# Altium integrated library analog-devices.IntLib: 264 symbols (part 1 of 4)
Pins are listed as number, name and electrical type; pins without a type are passive.

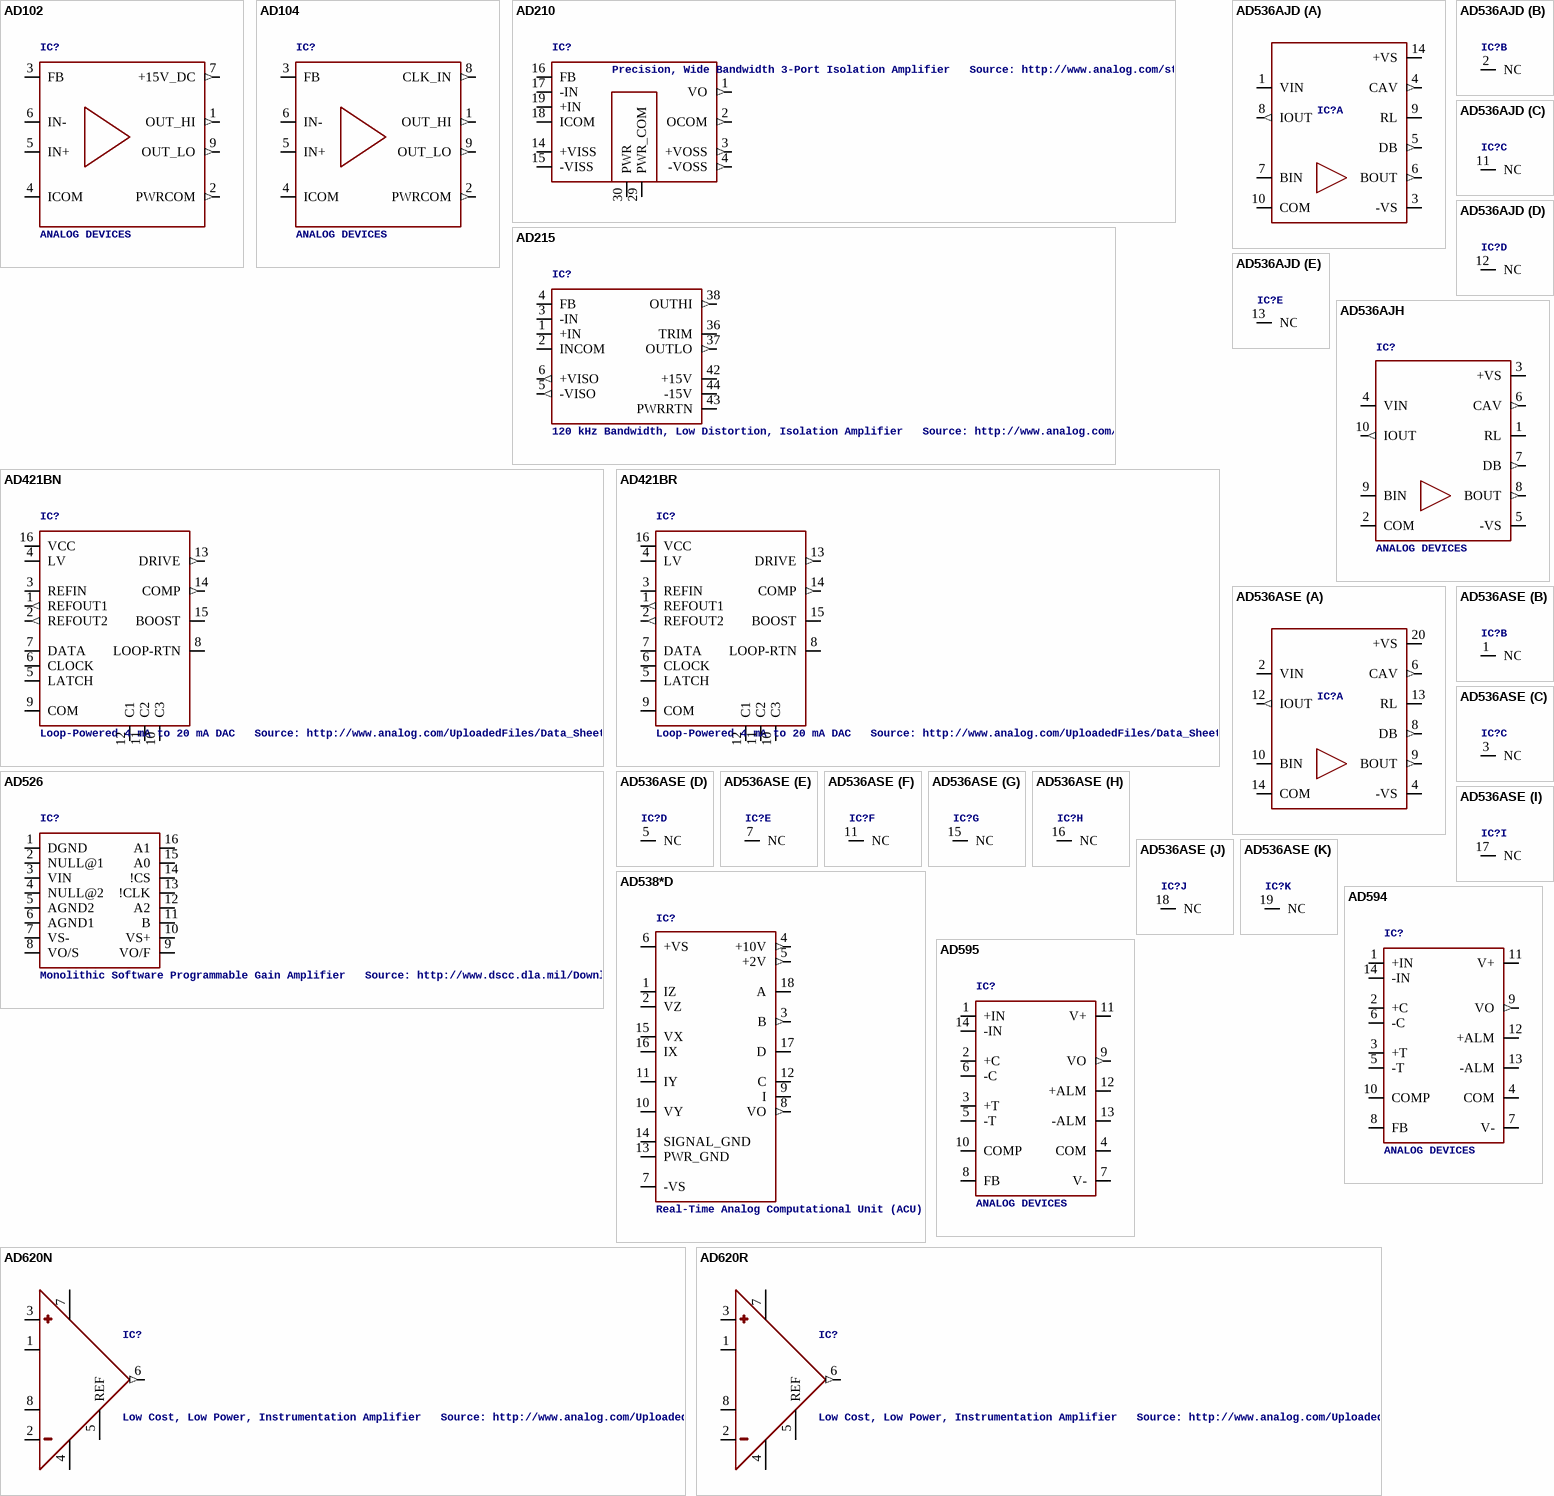
[diagram p0: symbols AD102 to AD620R]

## AD102
designator IC?, comment ANALOG DEVICES
OC_FARNELL: unknown; OC_NEWARK: unknown
footprint AD102
pins: 1 OUT_HI (out), 2 PWRCOM (out), 3 FB, 4 ICOM (power), 5 IN+, 6 IN-, 7 +15V_DC (out), 9 OUT_LO (out)

## AD104
designator IC?, comment ANALOG DEVICES
MPN: AD1047; OC_FARNELL: unknown; OC_NEWARK: 27R0347
footprint AD104
pins: 1 OUT_HI (out), 2 PWRCOM (out), 3 FB, 4 ICOM (power), 5 IN+, 6 IN-, 8 CLK_IN (out), 9 OUT_LO (out)

## AD210
designator IC?, comment Precision, Wide Bandwidth 3-Port Isolation Amplifier   Source: http://www.analog.com/static/imported-files/data_sheets/AD210.pdf
MPN: AD210AN; MF: ALTERA CORPORATION; OC_FARNELL: 3182034; OC_NEWARK: 05F6727
footprint AD210
pins: 1 VO (out), 2 OCOM (out), 3 +VOSS (out), 4 -VOSS (out), 14 +VISS, 15 -VISS, 16 FB, 17 -IN, 18 ICOM, 19 +IN, 29 PWR_COM, 30 PWR

## AD215
designator IC?, comment 120 kHz Bandwidth, Low Distortion, Isolation Amplifier   Source: http://www.analog.com/static/imported-files/data_sheets/AD215.pdf
MPN: AD215AY; MF: ALTERA CORPORATION; OC_FARNELL: 1464281; OC_NEWARK: 09B5050
footprint AD215
pins: 1 +IN, 2 INCOM, 3 -IN, 4 FB, 5 -VISO (out), 6 +VISO (out), 36 TRIM, 37 OUTLO (out), 38 OUTHI (out), 42 +15V, 43 PWRRTN, 44 -15V

## AD421BN
designator IC?, comment Loop-Powered 4 mA to 20 mA DAC   Source: http://www.analog.com/UploadedFiles/Data_Sheets/409317160AD421_c.pdf
MPN: AD421BN; MF: ALTERA CORPORATION; OC_FARNELL: 1438368; OC_NEWARK: 52F8047
footprint DIL16
pins: 1 REFOUT1 (out), 2 REFOUT2 (out), 3 REFIN, 4 LV, 5 LATCH, 6 CLOCK, 7 DATA, 8 LOOP-RTN, 9 COM (power), 10 C3, 11 C2, 12 C1, 13 DRIVE (out), 14 COMP (out), 15 BOOST (oc), 16 VCC (power)

## AD421BR
designator IC?, comment Loop-Powered 4 mA to 20 mA DAC   Source: http://www.analog.com/UploadedFiles/Data_Sheets/409317160AD421_c.pdf
MPN: AD421BR; OC_FARNELL: 1278822; OC_NEWARK: 52F8048
footprint SO-16W
pins: 1 REFOUT1 (out), 2 REFOUT2 (out), 3 REFIN, 4 LV, 5 LATCH, 6 CLOCK, 7 DATA, 8 LOOP-RTN, 9 COM (power), 10 C3, 11 C2, 12 C1, 13 DRIVE (out), 14 COMP (out), 15 BOOST (oc), 16 VCC (power)

## AD526
designator IC?, comment Monolithic Software Programmable Gain Amplifier   Source: http://www.dscc.dla.mil/Downloads/MilSpec/Smd/90894.pdf
MPN: AD526AD; MF: ALTERA CORPORATION; OC_FARNELL: 402140; OC_NEWARK: 05F6913
footprint DIL16
pins: 1 DGND, 2 NULL@1, 3 VIN, 4 NULL@2, 5 AGND2, 6 AGND1, 7 VS-, 8 VO/S, 9 VO/F, 10 VS+, 11 B, 12 A2, 13 !CLK, 14 !CS, 15 A0, 16 A1

## AD536AJD
designator IC?, comment ANALOG DEVICES  (value not drawn)
MPN: AD536AJD; MF: ALTERA CORPORATION; OC_FARNELL: 405358; OC_NEWARK: 05F6939
footprint DIL14
part A pins: 1 VIN, 3 -VS (power), 4 CAV (out), 5 DB (out), 6 BOUT (out), 7 BIN, 8 IOUT (out), 9 RL, 10 COM (power), 14 +VS (power)
part B pins: 2 NC
part C pins: 11 NC
part D pins: 12 NC
part E pins: 13 NC

## AD536AJH
designator IC?, comment ANALOG DEVICES
MPN: AD536AJH; MF: ALTERA CORPORATION; OC_FARNELL: 405360; OC_NEWARK: 05F6940
footprint TO100
pins: 1 RL, 2 COM (power), 3 +VS (power), 4 VIN, 5 -VS (power), 6 CAV (out), 7 DB (out), 8 BOUT (out), 9 BIN, 10 IOUT (out)

## AD536ASE
designator IC?, comment ANALOG DEVICES  (value not drawn)
OC_FARNELL: unknown; OC_NEWARK: unknown
footprint LCC20
part A pins: 2 VIN, 4 -VS (power), 6 CAV (out), 8 DB (out), 9 BOUT (out), 10 BIN, 12 IOUT (out), 13 RL, 14 COM (power), 20 +VS (power)
part B pins: 1 NC
part C pins: 3 NC
part D pins: 5 NC
part E pins: 7 NC
part F pins: 11 NC
part G pins: 15 NC
part H pins: 16 NC
part I pins: 17 NC
part J pins: 18 NC
part K pins: 19 NC

## AD538*D
designator IC?, comment Real-Time Analog Computational Unit (ACU)
MPN: AD538AD; MPN: AD538BD; MPN: AD538SD; MF: ALTERA CORPORATION; OC_FARNELL: 402667; OC_NEWARK: 05F6949; OC_FARNELL: 1530988; OC_NEWARK: 05F6950; OC_FARNELL: unknown; OC_NEWARK: 16F3434
footprint DIL18
pins: 1 IZ, 2 VZ, 3 B (out), 4 +10V (out), 5 +2V (out), 6 +VS (power), 7 -VS (power), 8 VO (out), 9 I, 10 VY, 11 IY, 12 C, 13 PWR_GND (power), 14 SIGNAL_GND (power), 15 VX, 16 IX, 17 D, 18 A

## AD594
designator IC?, comment ANALOG DEVICES
MPN: AD594AQ; MF: ALTERA CORPORATION; OC_FARNELL: 409182; OC_NEWARK: 05F7088
footprint DIL14
pins: 1 +IN, 2 +C, 3 +T, 4 COM (power), 5 -T, 6 -C, 7 V- (power), 8 FB, 9 VO (out), 10 COMP, 11 V+ (power), 12 +ALM, 13 -ALM, 14 -IN

## AD595
designator IC?, comment ANALOG DEVICES
MPN: AD595AQ; OC_FARNELL: 409194; OC_NEWARK: 06WX1596
footprint DIL14
pins: 1 +IN, 2 +C, 3 +T, 4 COM (power), 5 -T, 6 -C, 7 V- (power), 8 FB, 9 VO (out), 10 COMP, 11 V+ (power), 12 +ALM, 13 -ALM, 14 -IN

## AD620N
designator IC?, comment Low Cost, Low Power, Instrumentation Amplifier   Source: http://www.analog.com/UploadedFiles/Data_Sheets/37793330023930AD620_e.pdf
MPN: AD620AN; MF: ALTERA CORPORATION; OC_FARNELL: 1523782; OC_NEWARK: 05F7108
footprint DIL08
pins: 1 RG@1, 2 -, 3 +, 4 -V (power), 5 REF, 6 OUT (out), 7 +V (power), 8 RG@2

## AD620R
designator IC?, comment Low Cost, Low Power, Instrumentation Amplifier   Source: http://www.analog.com/UploadedFiles/Data_Sheets/37793330023930AD620_e.pdf
MPN: AD620AR; OC_FARNELL: 1464424; OC_NEWARK: 05F7109
footprint SO8
pins: 1 RG@1, 2 -, 3 +, 4 -V (power), 5 REF, 6 OUT (out), 7 +V (power), 8 RG@2

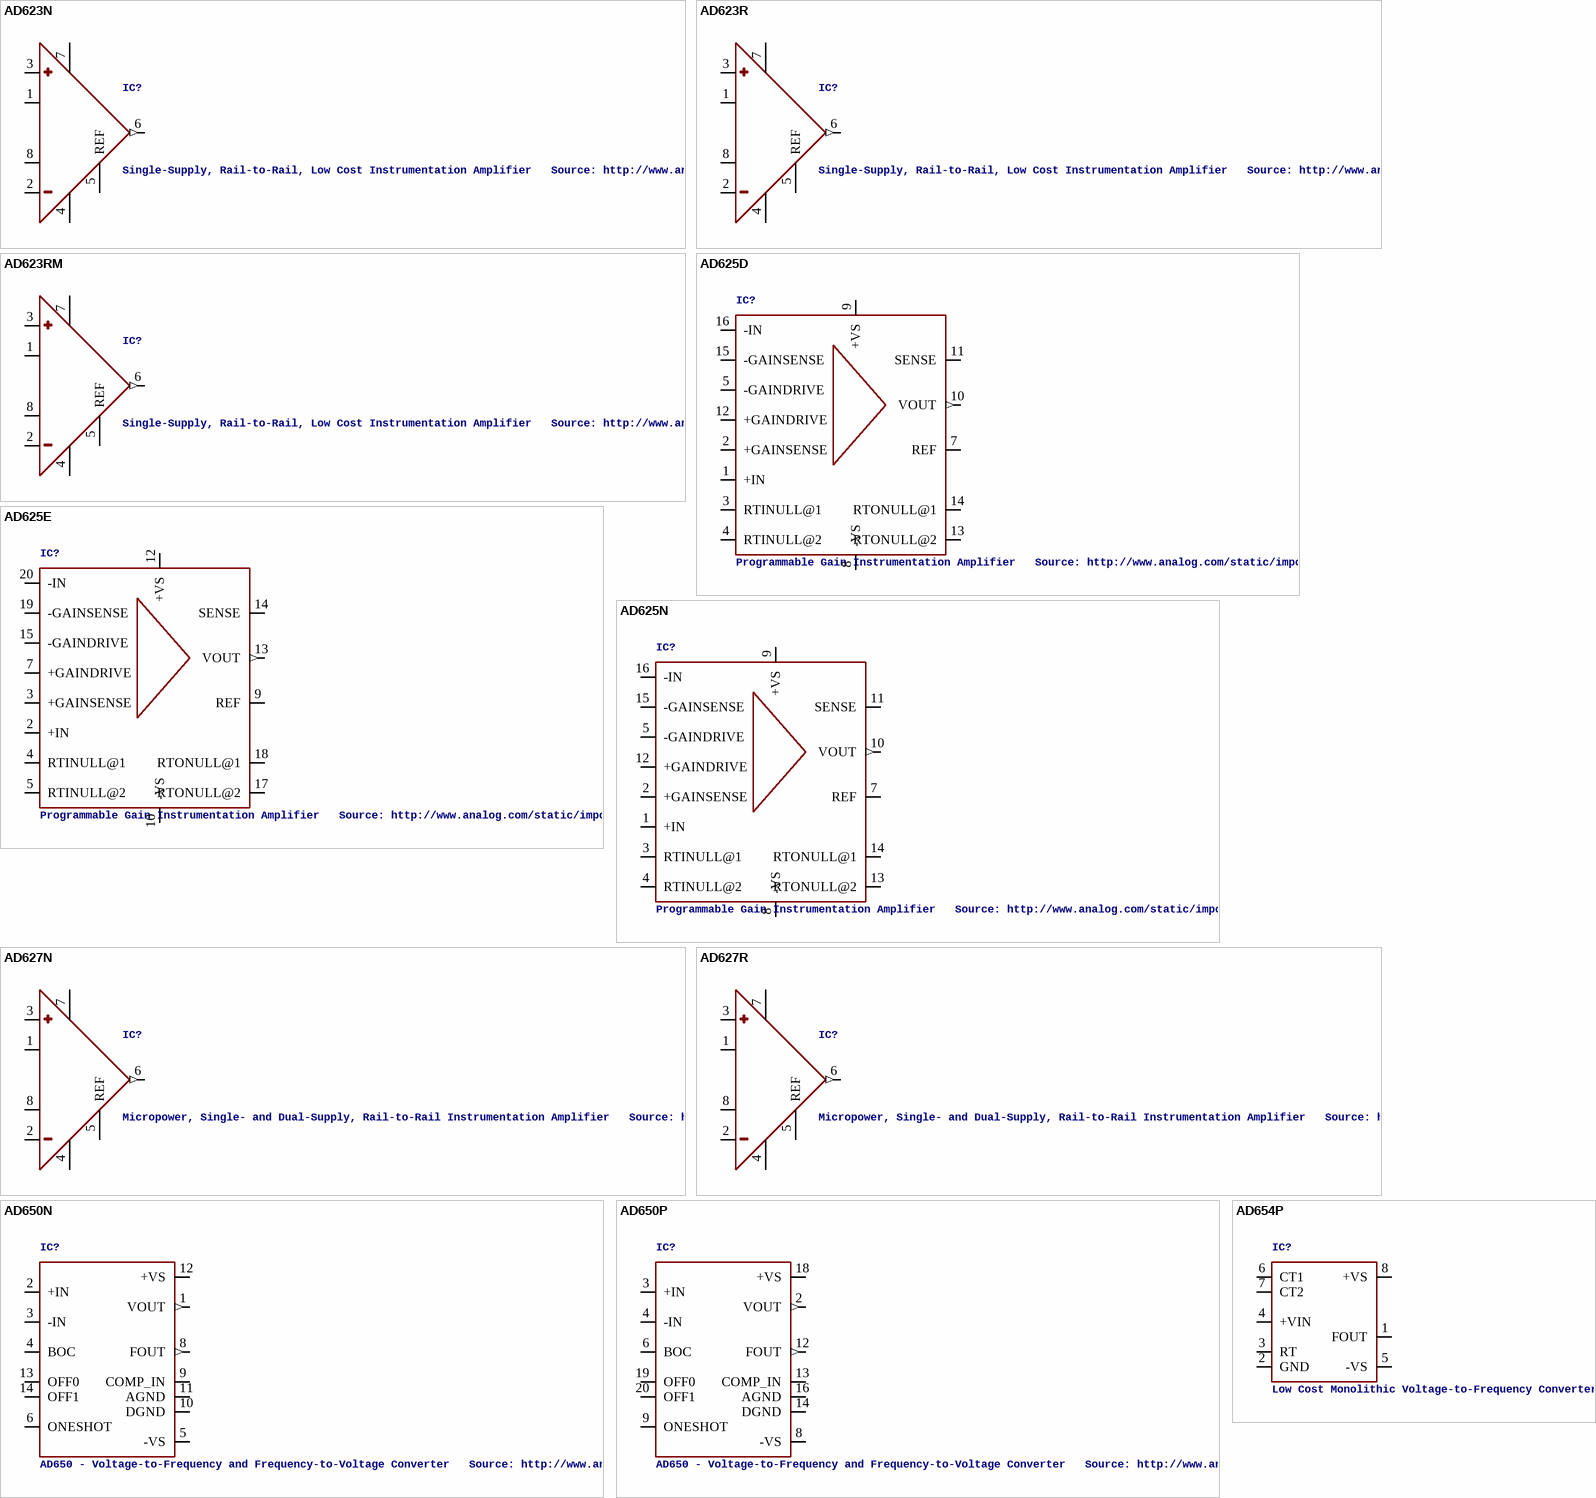
[diagram p1: symbols AD623N to AD654P]

## AD623N
designator IC?, comment Single-Supply, Rail-to-Rail, Low Cost Instrumentation Amplifier   Source: http://www.analog.com/static/imported-files/data_sheets/AD623.pdf
MPN: AD623ANZ; MF: ALTERA CORPORATION; OC_FARNELL: 9603700; OC_NEWARK: 59K4402
footprint DIL08
pins: 1 RG@1, 2 -, 3 +, 4 -V (power), 5 REF, 6 OUT (out), 7 +V (power), 8 RG@2

## AD623R
designator IC?, comment Single-Supply, Rail-to-Rail, Low Cost Instrumentation Amplifier   Source: http://www.analog.com/static/imported-files/data_sheets/AD623.pdf
MPN: AD623ARZ.; OC_FARNELL: 9426213; OC_NEWARK: 31M4186
footprint SO8
pins: 1 RG@1, 2 -, 3 +, 4 -V (power), 5 REF, 6 OUT (out), 7 +V (power), 8 RG@2

## AD623RM
designator IC?, comment Single-Supply, Rail-to-Rail, Low Cost Instrumentation Amplifier   Source: http://www.analog.com/static/imported-files/data_sheets/AD623.pdf
MPN: AD623ARMZ; OC_FARNELL: 1660961; OC_NEWARK: 19M8824
footprint MSOP08
pins: 1 RG@1, 2 -, 3 +, 4 -V (power), 5 REF, 6 OUT (out), 7 +V (power), 8 RG@2

## AD625D
designator IC?, comment Programmable Gain Instrumentation Amplifier   Source: http://www.analog.com/static/imported-files/data_sheets/AD625.pdf
MPN: AD625KNZ; OC_FARNELL: 3182289; OC_NEWARK: 15P0739
footprint DIL16
pins: 1 +IN, 2 +GAINSENSE, 3 RTINULL@1, 4 RTINULL@2, 5 -GAINDRIVE, 7 REF, 8 -VS, 9 +VS, 10 VOUT (out), 11 SENSE, 12 +GAINDRIVE, 13 RTONULL@2, 14 RTONULL@1, 15 -GAINSENSE, 16 -IN

## AD625E
designator IC?, comment Programmable Gain Instrumentation Amplifier   Source: http://www.analog.com/static/imported-files/data_sheets/AD625.pdf
OC_FARNELL: unknown; OC_NEWARK: unknown
footprint PLCC20
pins: 2 +IN, 3 +GAINSENSE, 4 RTINULL@1, 5 RTINULL@2, 7 +GAINDRIVE, 9 REF, 10 -VS, 12 +VS, 13 VOUT (out), 14 SENSE, 15 -GAINDRIVE, 17 RTONULL@2, 18 RTONULL@1, 19 -GAINSENSE, 20 -IN

## AD625N
designator IC?, comment Programmable Gain Instrumentation Amplifier   Source: http://www.analog.com/static/imported-files/data_sheets/AD625.pdf
MPN: AD625KNZ; OC_FARNELL: 1438353; OC_NEWARK: 15P0739
footprint DIL16
pins: 1 +IN, 2 +GAINSENSE, 3 RTINULL@1, 4 RTINULL@2, 5 -GAINDRIVE, 7 REF, 8 -VS, 9 +VS, 10 VOUT (out), 11 SENSE, 12 +GAINDRIVE, 13 RTONULL@2, 14 RTONULL@1, 15 -GAINSENSE, 16 -IN

## AD627N
designator IC?, comment Micropower, Single- and Dual-Supply, Rail-to-Rail Instrumentation Amplifier   Source: http://www.analog.com/static/imported-files/data_sheets/AD627.pdf
MPN: AD627BNZ; MF: ALTERA CORPORATION; OC_FARNELL: 1438354; OC_NEWARK: 59K4418
footprint DIL08
pins: 1 RG@1, 2 -, 3 +, 4 -V (power), 5 REF, 6 OUT (out), 7 +V (power), 8 RG@2

## AD627R
designator IC?, comment Micropower, Single- and Dual-Supply, Rail-to-Rail Instrumentation Amplifier   Source: http://www.analog.com/static/imported-files/data_sheets/AD627.pdf
MPN: AD627AR; OC_FARNELL: 1438354; OC_NEWARK: 09B5402
footprint SO8
pins: 1 RG@1, 2 -, 3 +, 4 -V (power), 5 REF, 6 OUT (out), 7 +V (power), 8 RG@2

## AD650N
designator IC?, comment AD650 - Voltage-to-Frequency and Frequency-to-Voltage Converter   Source: http://www.analog.com/en/prod/0,,760_794_AD650,00.html
MPN: AD650KN; MF: ALTERA CORPORATION; OC_FARNELL: 1464457; OC_NEWARK: 05F7159
footprint DIL14
pins: 1 VOUT (out), 2 +IN, 3 -IN, 4 BOC, 5 -VS, 6 ONESHOT, 8 FOUT (out), 9 COMP_IN, 10 DGND, 11 AGND, 12 +VS, 13 OFF0, 14 OFF1

## AD650P
designator IC?, comment AD650 - Voltage-to-Frequency and Frequency-to-Voltage Converter   Source: http://www.analog.com/en/prod/0,,760_794_AD650,00.html
OC_FARNELL: unknown; OC_NEWARK: unknown
footprint PLCC20
pins: 2 VOUT (out), 3 +IN, 4 -IN, 6 BOC, 8 -VS, 9 ONESHOT, 12 FOUT (out), 13 COMP_IN, 14 DGND, 16 AGND, 18 +VS, 19 OFF0, 20 OFF1

## AD654P
designator IC?, comment Low Cost Monolithic Voltage-to-Frequency Converter
MPN: AD654JNZ/+; MF: ALTERA CORPORATION; OC_FARNELL: 9605053; OC_NEWARK: 59K4466
footprint DIL08
pins: 1 FOUT (oc), 2 GND (power), 3 RT, 4 +VIN, 5 -VS (power), 6 CT1, 7 CT2, 8 +VS (power)

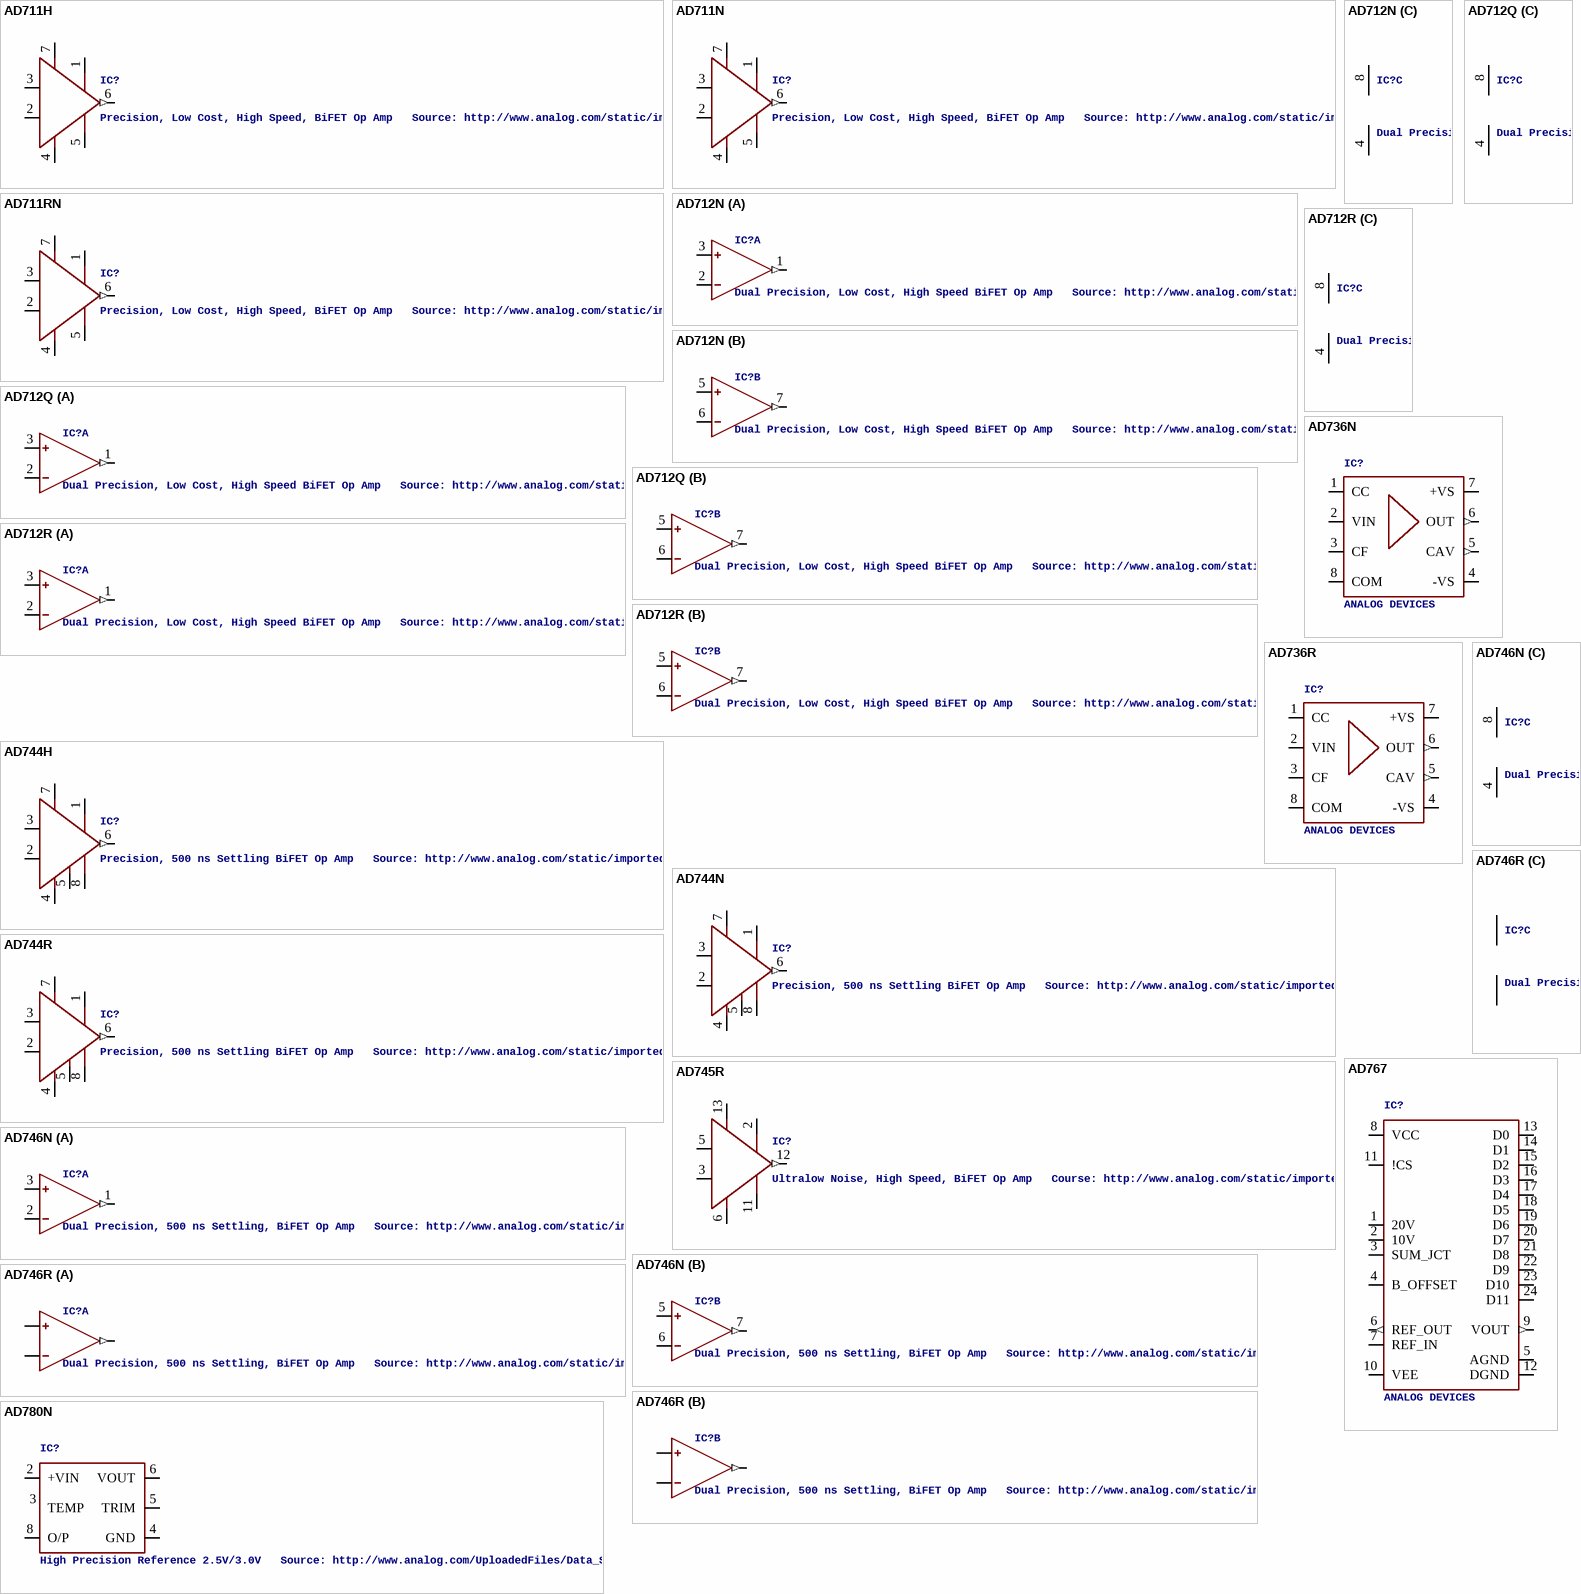
[diagram p2: symbols AD711H to AD780N]

## AD711H
designator IC?, comment Precision, Low Cost, High Speed, BiFET Op Amp   Source: http://www.analog.com/static/imported-files/data_sheets/AD711.pdf
OC_FARNELL: unknown; OC_NEWARK: unknown
footprint H08
pins: 1 OFF@1, 2 IN-, 3 IN+, 4 -VS, 5 OFF@2, 6 OUT (out), 7 +VS

## AD711N
designator IC?, comment Precision, Low Cost, High Speed, BiFET Op Amp   Source: http://www.analog.com/static/imported-files/data_sheets/AD711.pdf
MPN: AD711BQ; OC_FARNELL: 9604839; OC_NEWARK: 66F5826
footprint DIL08
pins: 1 OFF@1, 2 IN-, 3 IN+, 4 -VS, 5 OFF@2, 6 OUT (out), 7 +VS

## AD711RN
designator IC?, comment Precision, Low Cost, High Speed, BiFET Op Amp   Source: http://www.analog.com/static/imported-files/data_sheets/AD711.pdf
MPN: AD711KRZ; MF: ALTERA CORPORATION; OC_FARNELL: 9426396; OC_NEWARK: 59K4541
footprint SO8
pins: 1 OFF@1, 2 IN-, 3 IN+, 4 -VS, 5 OFF@2, 6 OUT (out), 7 +VS

## AD712N
designator IC?, comment Dual Precision, Low Cost, High Speed BiFET Op Amp   Source: http://www.analog.com/static/imported-files/data_sheets/AD712.pdf
MPN: AD712JNZ; MF: ALTERA CORPORATION; OC_FARNELL: 9604898; OC_NEWARK: 59K4554
footprint DIL08
part A pins: 1 OUT (out), 2 IN-, 3 IN+
part B pins: 5 IN+, 6 IN-, 7 OUT (out)
part C pins: 4 V- (power), 8 V+ (power)

## AD712Q
designator IC?, comment Dual Precision, Low Cost, High Speed BiFET Op Amp   Source: http://www.analog.com/static/imported-files/data_sheets/AD712.pdf
MPN: AD712AQ; MF: ALTERA CORPORATION; OC_FARNELL: 9604898; OC_NEWARK: 05F7274
footprint DIL08
part A pins: 1 OUT (out), 2 IN-, 3 IN+
part B pins: 5 IN+, 6 IN-, 7 OUT (out)
part C pins: 4 V- (power), 8 V+ (power)

## AD712R
designator IC?, comment Dual Precision, Low Cost, High Speed BiFET Op Amp   Source: http://www.analog.com/static/imported-files/data_sheets/AD712.pdf
MPN: AD712KRZ; MF: ALTERA CORPORATION; OC_FARNELL: 1263975; OC_NEWARK: 59K4556
footprint SO8
part A pins: 1 OUT (out), 2 IN-, 3 IN+
part B pins: 5 IN+, 6 IN-, 7 OUT (out)
part C pins: 4 V- (power), 8 V+ (power)

## AD736N
designator IC?, comment ANALOG DEVICES
MPN: AD736JN; MF: ALTERA CORPORATION; OC_FARNELL: 9605061; OC_NEWARK: 05F7334
footprint DIL08
pins: 1 CC, 2 VIN, 3 CF, 4 -VS (power), 5 CAV (out), 6 OUT (out), 7 +VS (power), 8 COM (power)

## AD736R
designator IC?, comment ANALOG DEVICES
MPN: AD736JRZ; OC_FARNELL: 1701156; OC_NEWARK: 19M0863
footprint SO8
pins: 1 CC, 2 VIN, 3 CF, 4 -VS (power), 5 CAV (out), 6 OUT (out), 7 +VS (power), 8 COM (power)

## AD744H
designator IC?, comment Precision, 500 ns Settling BiFET Op Amp   Source: http://www.analog.com/static/imported-files/data_sheets/AD744.pdf
OC_FARNELL: unknown; OC_NEWARK: unknown
footprint H08
pins: 1 OFF@1, 2 IN-, 3 IN+, 4 -VS, 5 COMP, 6 OUT (out), 7 +VS, 8 OFF@2

## AD744N
designator IC?, comment Precision, 500 ns Settling BiFET Op Amp   Source: http://www.analog.com/static/imported-files/data_sheets/AD744.pdf
MPN: AD744JNZ; MF: ALTERA CORPORATION; OC_FARNELL: 1438362; OC_NEWARK: 59K4810
footprint DIL08
pins: 1 OFF@1, 2 IN-, 3 IN+, 4 -VS, 5 COMP, 6 OUT (out), 7 +VS, 8 OFF@2

## AD744R
designator IC?, comment Precision, 500 ns Settling BiFET Op Amp   Source: http://www.analog.com/static/imported-files/data_sheets/AD744.pdf
MPN: AD744JR; MF: ANALOG DEVICES; OC_FARNELL: 1651300; OC_NEWARK: 05F7341
footprint SO8
pins: 1 OFF@1, 2 IN-, 3 IN+, 4 -VS, 5 COMP, 6 OUT (out), 7 +VS, 8 OFF@2

## AD745R
designator IC?, comment Ultralow Noise, High Speed, BiFET Op Amp   Course: http://www.analog.com/static/imported-files/data_sheets/AD745.pdf
MPN: AD745JRZ-16; MF: ALTERA CORPORATION; OC_FARNELL: 1838876; OC_NEWARK: 59K4819
footprint SOIC16R
pins: 2 OFF@1, 3 IN-, 5 IN+, 6 -VS, 11 OFF@2, 12 OUT (out), 13 +VS

## AD746N
designator IC?, comment Dual Precision, 500 ns Settling, BiFET Op Amp   Source: http://www.analog.com/static/imported-files/data_sheets/AD746.pdf
MPN: AD746JNZ; MF: ALTERA CORPORATION; OC_FARNELL: 1438363; OC_NEWARK: 59K4844
footprint DIL08
part A pins: 1 OUT (out), 2 IN-, 3 IN+
part B pins: 5 IN+, 6 IN-, 7 OUT (out)
part C pins: 4 V- (power), 8 V+ (power)

## AD746R
designator IC?, comment Dual Precision, 500 ns Settling, BiFET Op Amp   Source: http://www.analog.com/static/imported-files/data_sheets/AD746.pdf
MPN: AD746JRZ; MF: ALTERA CORPORATION; OC_FARNELL: 1423876; OC_NEWARK: 59K4845
footprint SO8
part A pins: ?1 IN+, ?2 IN-, ?3 OUT (out)
part B pins: ? IN+, ? IN-, ? OUT (out)
part C pins: ? V+ (power), ? V- (power)

## AD767
designator IC?, comment ANALOG DEVICES
MPN: AD767KNZ; MF: ALTERA CORPORATION; OC_FARNELL: 9604510; OC_NEWARK: 59K5176
footprint DIL24-3
pins: 1 20V, 2 10V, 3 SUM_JCT, 4 B_OFFSET, 5 AGND (power), 6 REF_OUT (out), 7 REF_IN, 8 VCC (power), 9 VOUT (out), 10 VEE (power), 11 !CS, 12 DGND (power), 13 D0 (hiz), 14 D1 (hiz), 15 D2 (hiz), 16 D3 (hiz), 17 D4 (hiz), 18 D5 (hiz), 19 D6 (hiz), 20 D7 (hiz), 21 D8 (hiz), 22 D9 (hiz), 23 D10 (hiz), 24 D11 (hiz)

## AD780N
designator IC?, comment High Precision Reference 2.5V/3.0V   Source: http://www.analog.com/UploadedFiles/Data_Sheets/AD780.pdf
MPN: AD780ANZ; MF: ALTERA CORPORATION; OC_FARNELL: 9605550; OC_NEWARK: 59K5478
footprint DIL08
pins: 2 +VIN, 3 TEMP, 4 GND (power), 5 TRIM, 6 VOUT, 8 O/P

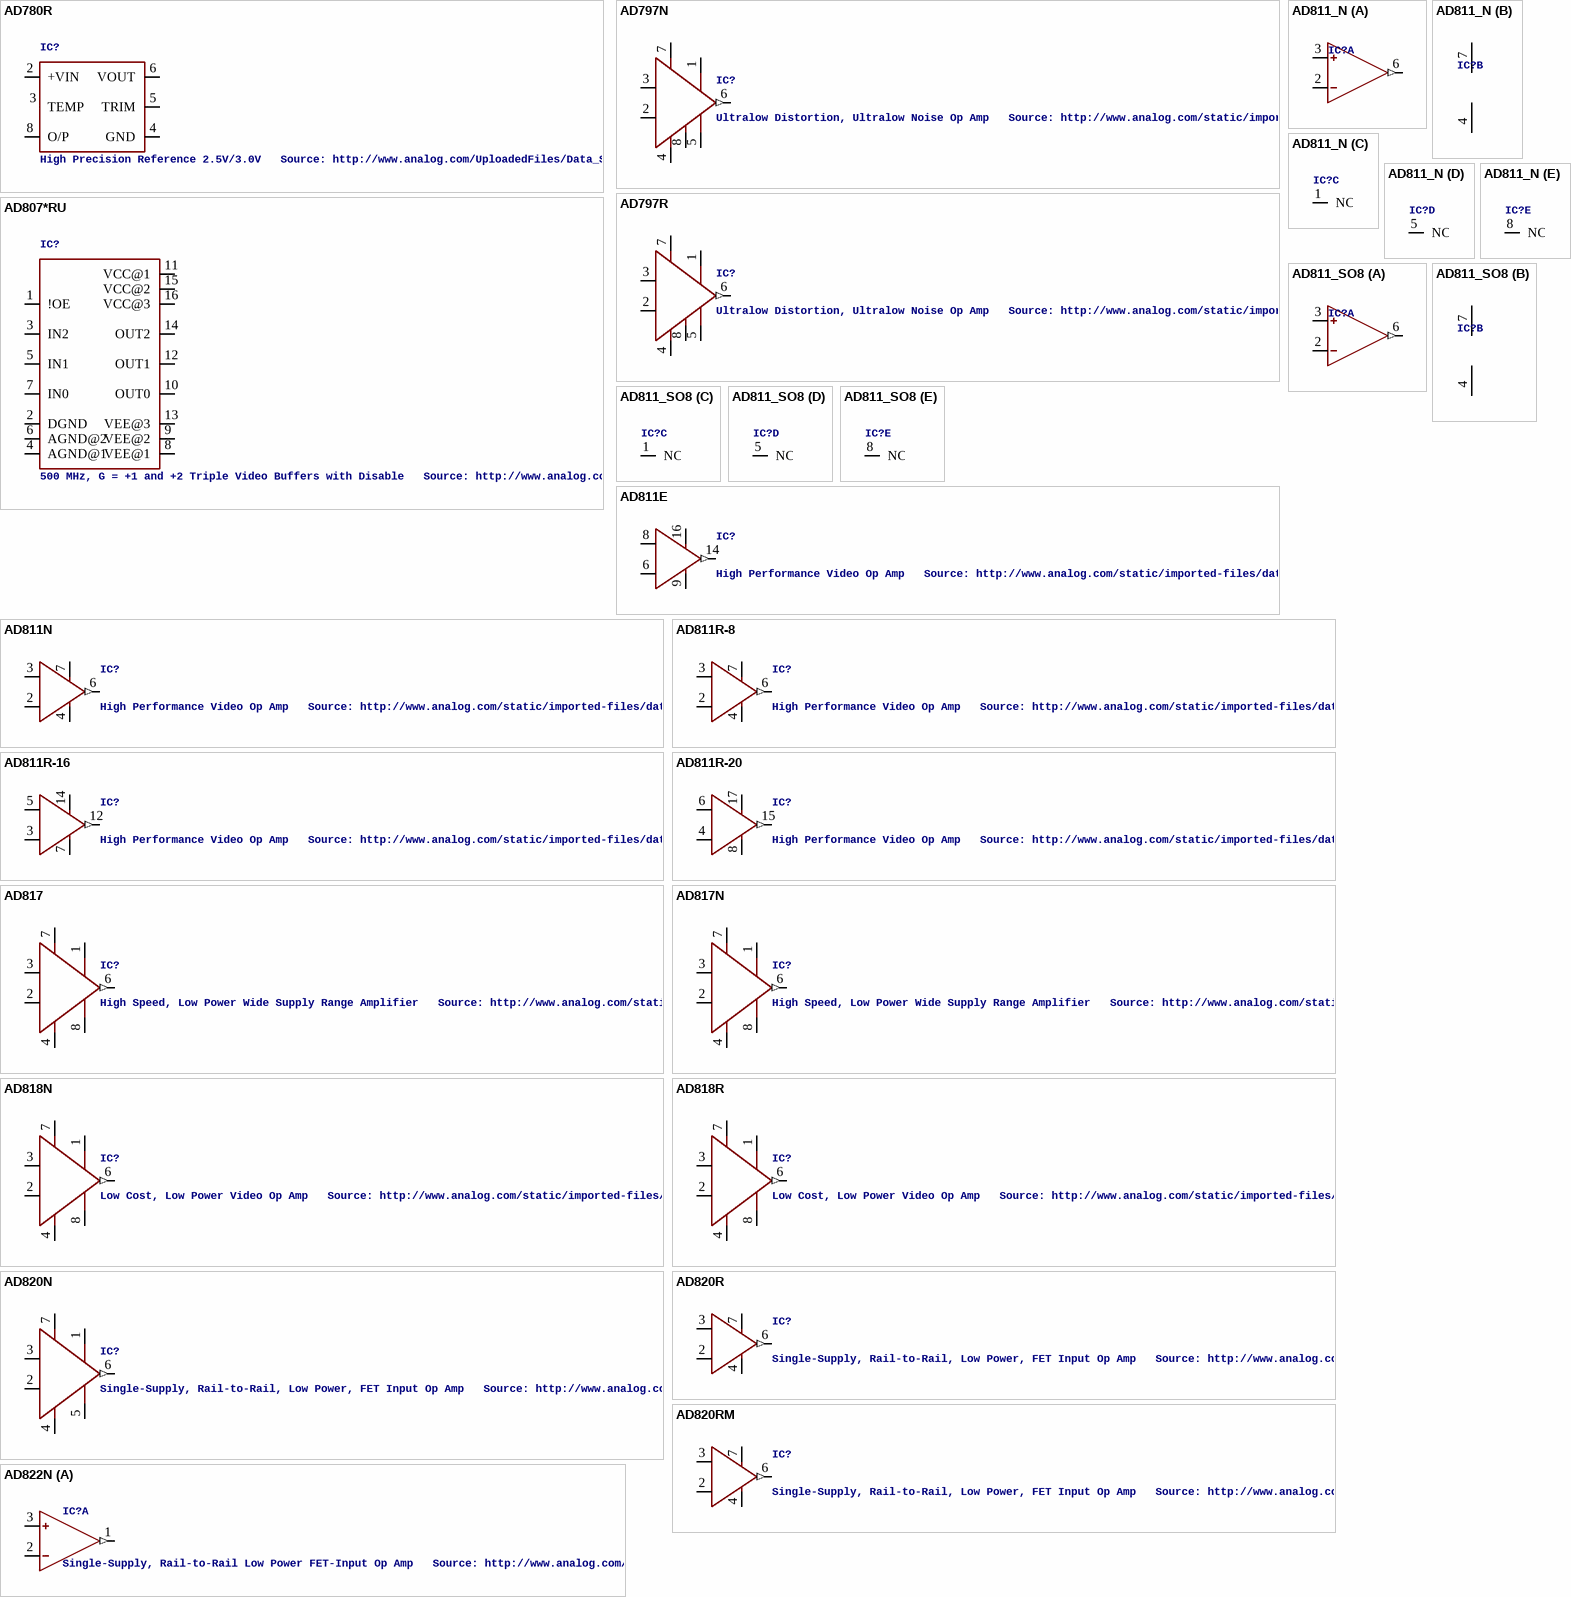
[diagram p3: symbols AD780R to AD822N]

## AD780R
designator IC?, comment High Precision Reference 2.5V/3.0V   Source: http://www.analog.com/UploadedFiles/Data_Sheets/AD780.pdf
MPN: AD780BRZ-REEL; OC_FARNELL: 1464655; OC_NEWARK: 12M8938
footprint SO8
pins: 2 +VIN, 3 TEMP, 4 GND (power), 5 TRIM, 6 VOUT, 8 O/P

## AD797N
designator IC?, comment Ultralow Distortion, Ultralow Noise Op Amp   Source: http://www.analog.com/static/imported-files/data_sheets/AD797.pdf
MPN: AD797ANZ; MF: ALTERA CORPORATION; OC_FARNELL: 9603778; OC_NEWARK: 59K6088
footprint DIL08
pins: 1 OFF@1, 2 IN-, 3 IN+, 4 -VS, 5 OFF@2, 6 OUT (out), 7 +VS, 8 COMP

## AD797R
designator IC?, comment Ultralow Distortion, Ultralow Noise Op Amp   Source: http://www.analog.com/static/imported-files/data_sheets/AD797.pdf
MPN: AD797ARZ; MF: ALTERA CORPORATION; OC_FARNELL: 9426450; OC_NEWARK: 88H0085
footprint SO8
pins: 1 OFF@1, 2 IN-, 3 IN+, 4 -VS, 5 OFF@2, 6 OUT (out), 7 +VS, 8 COMP

## AD807*RU
designator IC?, comment 500 MHz, G = +1 and +2 Triple Video Buffers with Disable   Source: http://www.analog.com/static/imported-files/data_sheets/AD8074_8075.pdf
MPN: AD8074ARUZ; MPN: AD8075ARUZ; OC_FARNELL: 9426027; OC_NEWARK: 19M0929; OC_FARNELL: 9426035; OC_NEWARK: 19M0930
footprint TSSOP16
pins: 1 !OE, 2 DGND, 3 IN2, 4 AGND@1, 5 IN1, 6 AGND@2, 7 IN0, 8 VEE@1, 9 VEE@2, 10 OUT0 (hiz), 11 VCC@1, 12 OUT1 (hiz), 13 VEE@3, 14 OUT2 (hiz), 15 VCC@2, 16 VCC@3

## AD811_N
designator IC?, comment ANALOG DEVICES  (value not drawn)
MPN: AD811ANZ; MF: ALTERA CORPORATION; OC_FARNELL: 1464857; OC_NEWARK: 58K5191
footprint DIL08
part A pins: 2 IN-, 3 IN+, 6 OUT (out)
part B pins: 4 V- (power), 7 V+ (power)
part C pins: 1 NC
part D pins: 5 NC
part E pins: 8 NC

## AD811_SO8
designator IC?, comment ANALOG DEVICES  (value not drawn)
MPN: AD811JRZ; MF: ALTERA CORPORATION; OC_FARNELL: unknown; OC_NEWARK: 82H2980
footprint SO8
part A pins: 2 IN-, 3 IN+, 6 OUT (out)
part B pins: 4 V- (power), 7 V+ (power)
part C pins: 1 NC
part D pins: 5 NC
part E pins: 8 NC

## AD811E
designator IC?, comment High Performance Video Op Amp   Source: http://www.analog.com/static/imported-files/data_sheets/AD811.pdf
OC_FARNELL: unknown; OC_NEWARK: unknown
footprint PLCC20
pins: 6 IN-, 8 IN+, 9 -VS, 14 OUT (out), 16 +VS

## AD811N
designator IC?, comment High Performance Video Op Amp   Source: http://www.analog.com/static/imported-files/data_sheets/AD811.pdf
MPN: AD811AN; MF: ALTERA CORPORATION; OC_FARNELL: 1464857; OC_NEWARK: 05F7667
footprint DIL08
pins: 2 IN-, 3 IN+, 4 -VS, 6 OUT (out), 7 +VS

## AD811R-8
designator IC?, comment High Performance Video Op Amp   Source: http://www.analog.com/static/imported-files/data_sheets/AD811.pdf
MPN: AD811JRZ; MF: ALTERA CORPORATION; OC_FARNELL: 9426485; OC_NEWARK: 82H2980
footprint SO8
pins: 2 IN-, 3 IN+, 4 -VS, 6 OUT (out), 7 +VS

## AD811R-16
designator IC?, comment High Performance Video Op Amp   Source: http://www.analog.com/static/imported-files/data_sheets/AD811.pdf
MPN: AD811ARZ-16; MF: ALTERA CORPORATION; OC_FARNELL: unknown; OC_NEWARK: 59K6371
footprint SOIC16R
pins: 3 IN-, 5 IN+, 7 -VS, 12 OUT (out), 14 +VS

## AD811R-20
designator IC?, comment High Performance Video Op Amp   Source: http://www.analog.com/static/imported-files/data_sheets/AD811.pdf
MPN: AD811ARZ-20; MF: ALTERA CORPORATION; OC_FARNELL: unknown; OC_NEWARK: 59K6374
footprint SOIC20R
pins: 4 IN-, 6 IN+, 8 -VS, 15 OUT (out), 17 +VS

## AD817
designator IC?, comment High Speed, Low Power Wide Supply Range Amplifier   Source: http://www.analog.com/static/imported-files/data_sheets/AD817.pdf
MPN: AD817ARZ; MF: ALTERA CORPORATION; OC_FARNELL: 1660992; OC_NEWARK: 88H0179
footprint SO8
pins: 1 OFF@1, 2 IN-, 3 IN+, 4 -VS, 6 OUT (out), 7 +VS, 8 OFF@2

## AD817N
designator IC?, comment High Speed, Low Power Wide Supply Range Amplifier   Source: http://www.analog.com/static/imported-files/data_sheets/AD817.pdf
OC_FARNELL: 9604006; OC_NEWARK: unknown
footprint DIL08
pins: 1 OFF@1, 2 IN-, 3 IN+, 4 -VS, 6 OUT (out), 7 +VS, 8 OFF@2

## AD818N
designator IC?, comment Low Cost, Low Power Video Op Amp   Source: http://www.analog.com/static/imported-files/data_sheets/AD818.pdf
OC_FARNELL: 9605630; OC_NEWARK: unknown
footprint DIL08
pins: 1 OFF@1, 2 IN-, 3 IN+, 4 -VS, 6 OUT (out), 7 +VS, 8 OFF@2

## AD818R
designator IC?, comment Low Cost, Low Power Video Op Amp   Source: http://www.analog.com/static/imported-files/data_sheets/AD818.pdf
MPN: AD818ARZ; MF: ALTERA CORPORATION; OC_FARNELL: unknown; OC_NEWARK: 82H2988
footprint SO8
pins: 1 OFF@1, 2 IN-, 3 IN+, 4 -VS, 6 OUT (out), 7 +VS, 8 OFF@2

## AD820N
designator IC?, comment Single-Supply, Rail-to-Rail, Low Power, FET Input Op Amp   Source: http://www.analog.com/static/imported-files/data_sheets/AD820.pdf
OC_FARNELL: 1438579; OC_NEWARK: unknown
footprint DIL08
pins: 1 OFF@1, 2 IN-, 3 IN+, 4 -VS, 5 OFF@2, 6 OUT (out), 7 +VS

## AD820R
designator IC?, comment Single-Supply, Rail-to-Rail, Low Power, FET Input Op Amp   Source: http://www.analog.com/static/imported-files/data_sheets/AD820.pdf
OC_FARNELL: 1838867; OC_NEWARK: unknown
footprint SO8
pins: 2 IN-, 3 IN+, 4 -VS, 6 OUT (out), 7 +VS

## AD820RM
designator IC?, comment Single-Supply, Rail-to-Rail, Low Power, FET Input Op Amp   Source: http://www.analog.com/static/imported-files/data_sheets/AD820.pdf
MPN: AD820ARZ; MF: ALTERA CORPORATION; OC_FARNELL: 9426469; OC_NEWARK: 88H0196
footprint MSOP08
pins: 2 IN-, 3 IN+, 4 -VS, 6 OUT (out), 7 +VS

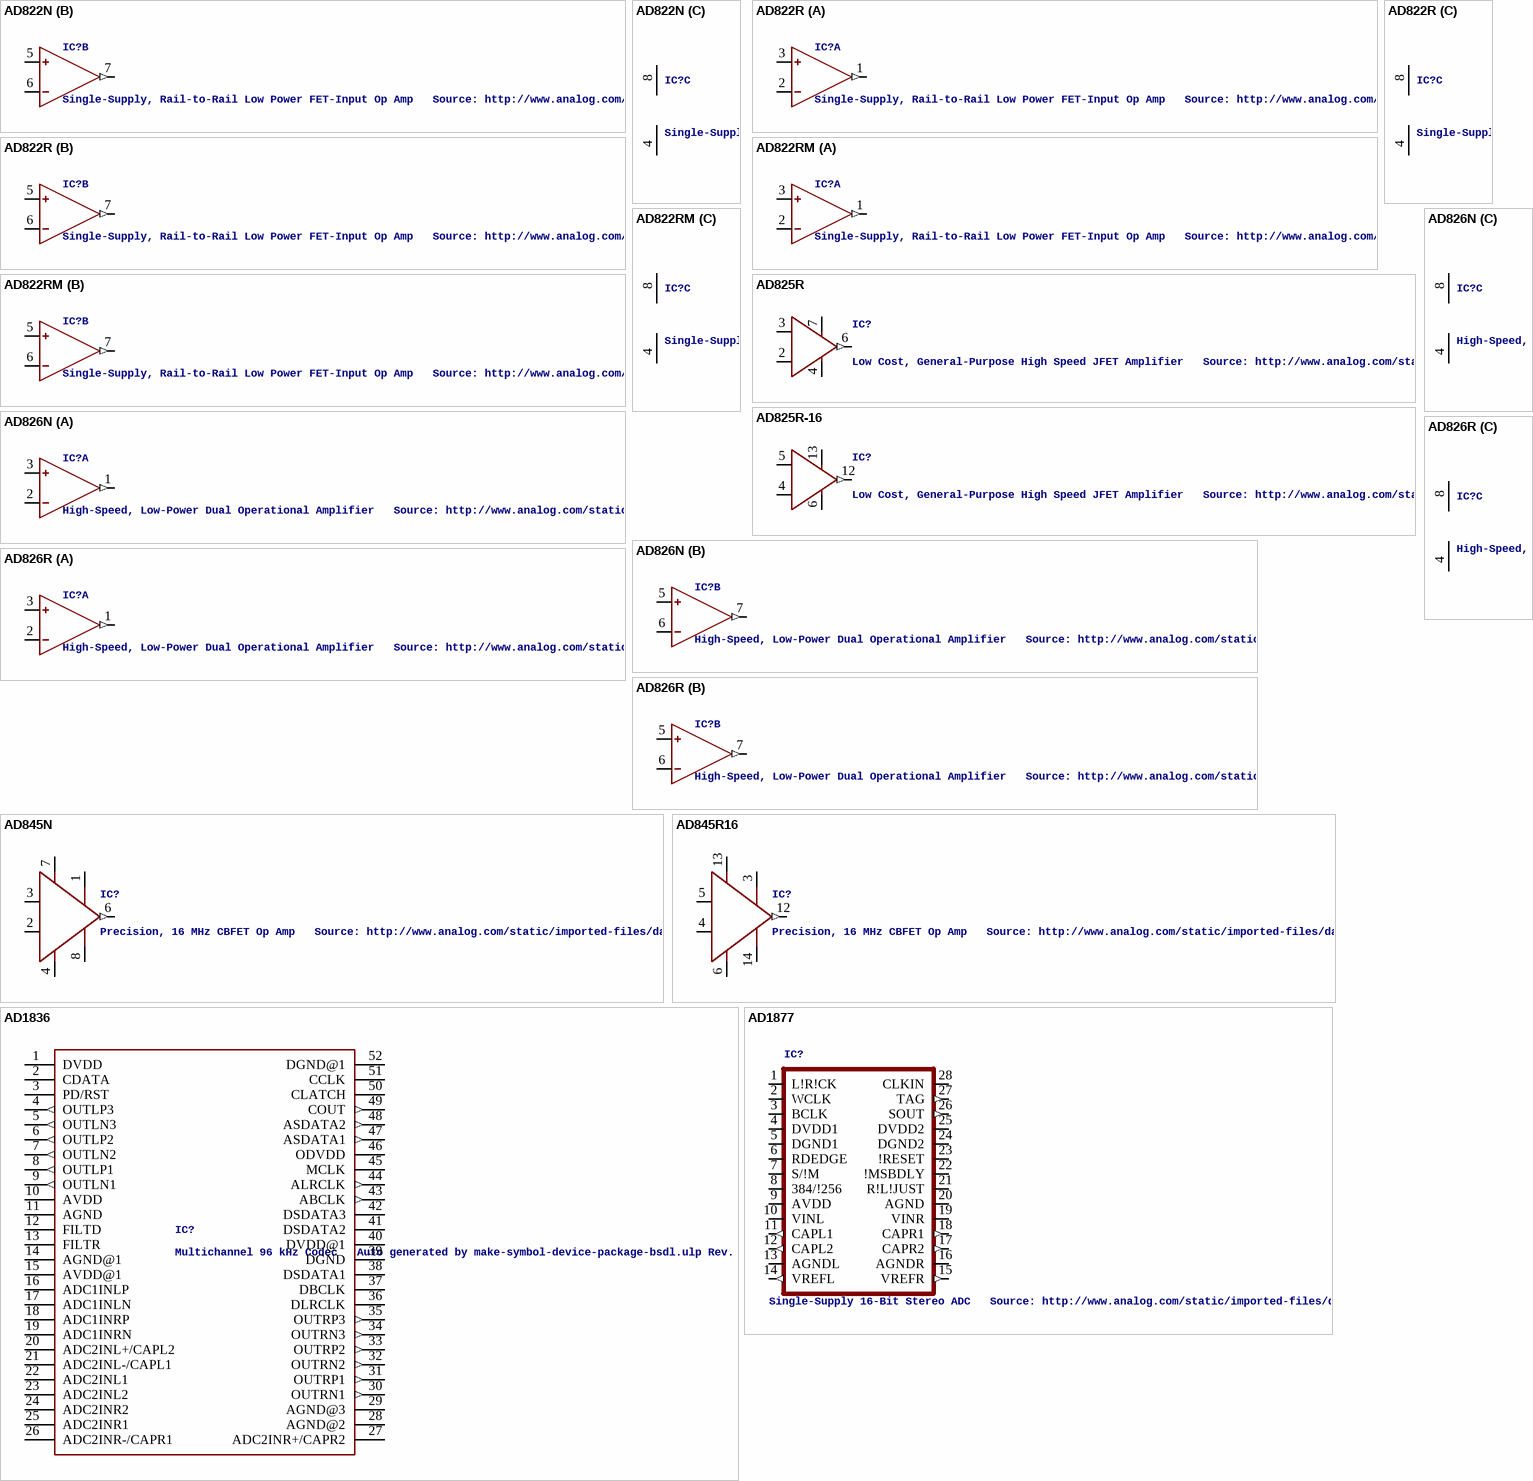
[diagram p4: symbols AD822N to AD1877]

## AD822N
designator IC?, comment Single-Supply, Rail-to-Rail Low Power FET-Input Op Amp   Source: http://www.analog.com/static/imported-files/data_sheets/AD822.pdf
OC_FARNELL: 1438581; OC_NEWARK: unknown
footprint DIL08
part A pins: 1 OUT (out), 2 IN-, 3 IN+
part B pins: 5 IN+, 6 IN-, 7 OUT (out)
part C pins: 4 V- (power), 8 V+ (power)

## AD822R
designator IC?, comment Single-Supply, Rail-to-Rail Low Power FET-Input Op Amp   Source: http://www.analog.com/static/imported-files/data_sheets/AD822.pdf
MPN: AD822BRZ; MF: ANALOG DEVICES; OC_FARNELL: 1651303
footprint SO8
part A pins: 1 OUT (out), 2 IN-, 3 IN+
part B pins: 5 IN+, 6 IN-, 7 OUT (out)
part C pins: 4 V- (power), 8 V+ (power)

## AD822RM
designator IC?, comment Single-Supply, Rail-to-Rail Low Power FET-Input Op Amp   Source: http://www.analog.com/static/imported-files/data_sheets/AD822.pdf
MPN: AD822ARMZ-R2; OC_FARNELL: 1827360; OC_NEWARK: 19M8890
footprint MSOP08
part A pins: 1 OUT (out), 2 IN-, 3 IN+
part B pins: 5 IN+, 6 IN-, 7 OUT (out)
part C pins: 4 V- (power), 8 V+ (power)

## AD825R
designator IC?, comment Low Cost, General-Purpose High Speed JFET Amplifier   Source: http://www.analog.com/static/imported-files/data_sheets/AD825.pdf
MPN: AD825ARZ; MF: ALTERA CORPORATION; OC_FARNELL: 9603735; OC_NEWARK: 59K6528
footprint SO8
pins: 2 IN-, 3 IN+, 4 -VS, 6 OUT (out), 7 +VS

## AD825R-16
designator IC?, comment Low Cost, General-Purpose High Speed JFET Amplifier   Source: http://www.analog.com/static/imported-files/data_sheets/AD825.pdf
OC_FARNELL: unknown; OC_NEWARK: unknown
footprint SOIC16R
pins: 4 IN-, 5 IN+, 6 -VS, 12 OUT (out), 13 +VS

## AD826N
designator IC?, comment High-Speed, Low-Power Dual Operational Amplifier   Source: http://www.analog.com/static/imported-files/data_sheets/AD826.pdf
MPN: AD826ANZ; MF: ALTERA CORPORATION; OC_FARNELL: 1438583; OC_NEWARK: 59K6530
footprint DIL08
part A pins: 1 OUT (out), 2 IN-, 3 IN+
part B pins: 5 IN+, 6 IN-, 7 OUT (out)
part C pins: 4 V- (power), 8 V+ (power)

## AD826R
designator IC?, comment High-Speed, Low-Power Dual Operational Amplifier   Source: http://www.analog.com/static/imported-files/data_sheets/AD826.pdf
MPN: AD826AR; MF: ALTERA CORPORATION; OC_FARNELL: 1651291; OC_NEWARK: 05F7688
footprint SO8
part A pins: 1 OUT (out), 2 IN-, 3 IN+
part B pins: 5 IN+, 6 IN-, 7 OUT (out)
part C pins: 4 V- (power), 8 V+ (power)

## AD845N
designator IC?, comment Precision, 16 MHz CBFET Op Amp   Source: http://www.analog.com/static/imported-files/data_sheets/AD845.pdf
MPN: AD845KNZ; MF: ALTERA CORPORATION; OC_FARNELL: 9605649; OC_NEWARK: 59K6757
footprint DIL08
pins: 1 OFF@1, 2 IN-, 3 IN+, 4 -VS, 6 OUT (out), 7 +VS, 8 OFF@2

## AD845R16
designator IC?, comment Precision, 16 MHz CBFET Op Amp   Source: http://www.analog.com/static/imported-files/data_sheets/AD845.pdf
MPN: AD845JR-16; MF: ALTERA CORPORATION; OC_FARNELL: unknown; OC_NEWARK: 05F7719
footprint SOIC16R
pins: 3 OFF@1, 4 IN-, 5 IN+, 6 -VS, 12 OUT (out), 13 +VS, 14 OFF@2

## AD1836
designator IC?, comment Multichannel 96 kHz Codec   Auto generated by make-symbol-device-package-bsdl.ulp Rev. 32 Source: http://www.analog.com/static/imported-files/data_sheets/AD1836.pdf
MPN: AD1836AASZ; MF: ALTERA CORPORATION; OC_FARNELL: 8396558; OC_NEWARK: 59K3418
footprint PQFP52
pins: 1 DVDD (power), 2 CDATA, 3 PD/RST, 4 OUTLP3 (out), 5 OUTLN3 (out), 6 OUTLP2 (out), 7 OUTLN2 (out), 8 OUTLP1 (out), 9 OUTLN1 (out), 10 AVDD, 11 AGND, 12 FILTD, 13 FILTR, 14 AGND@1, 15 AVDD@1, 16 ADC1INLP, 17 ADC1INLN, 18 ADC1INRP, 19 ADC1INRN, 20 ADC2INL+/CAPL2, 21 ADC2INL-/CAPL1, 22 ADC2INL1, 23 ADC2INL2, 24 ADC2INR2, 25 ADC2INR1, 26 ADC2INR-/CAPR1, 27 ADC2INR+/CAPR2, 28 AGND@2, 29 AGND@3, 30 OUTRN1 (out), 31 OUTRP1 (out), 32 OUTRN2 (out), 33 OUTRP2 (out), 34 OUTRN3 (out), 35 OUTRP3 (out), 36 DLRCLK, 37 DBCLK, 38 DSDATA1, 39 DGND (power), 40 DVDD@1 (power), 41 DSDATA2, 42 DSDATA3, 43 ABCLK (out), 44 ALRCLK (out), 45 MCLK, 46 ODVDD, 47 ASDATA1 (out), 48 ASDATA2 (out), 49 COUT (out), 50 CLATCH, 51 CCLK, 52 DGND@1 (power)

## AD1877
designator IC?, comment Single-Supply 16-Bit Stereo ADC   Source: http://www.analog.com/static/imported-files/data_sheets/AD1877.pdf
MPN: AD1877JRZ; OC_FARNELL: 1438337; OC_NEWARK: 12M8449
footprint SO-28R
pins: 1 L!R!CK, 2 WCLK, 3 BCLK, 4 DVDD1, 5 DGND1, 6 RDEDGE, 7 S/!M, 8 384/!256, 9 AVDD, 10 VINL, 11 CAPL1 (out), 12 CAPL2 (out), 13 AGNDL, 14 VREFL (out), 15 VREFR (out), 16 AGNDR, 17 CAPR2 (out), 18 CAPR1 (out), 19 VINR, 20 AGND, 21 R!L!JUST, 22 !MSBDLY, 23 !RESET, 24 DGND2, 25 DVDD2, 26 SOUT (out), 27 TAG (out), 28 CLKIN

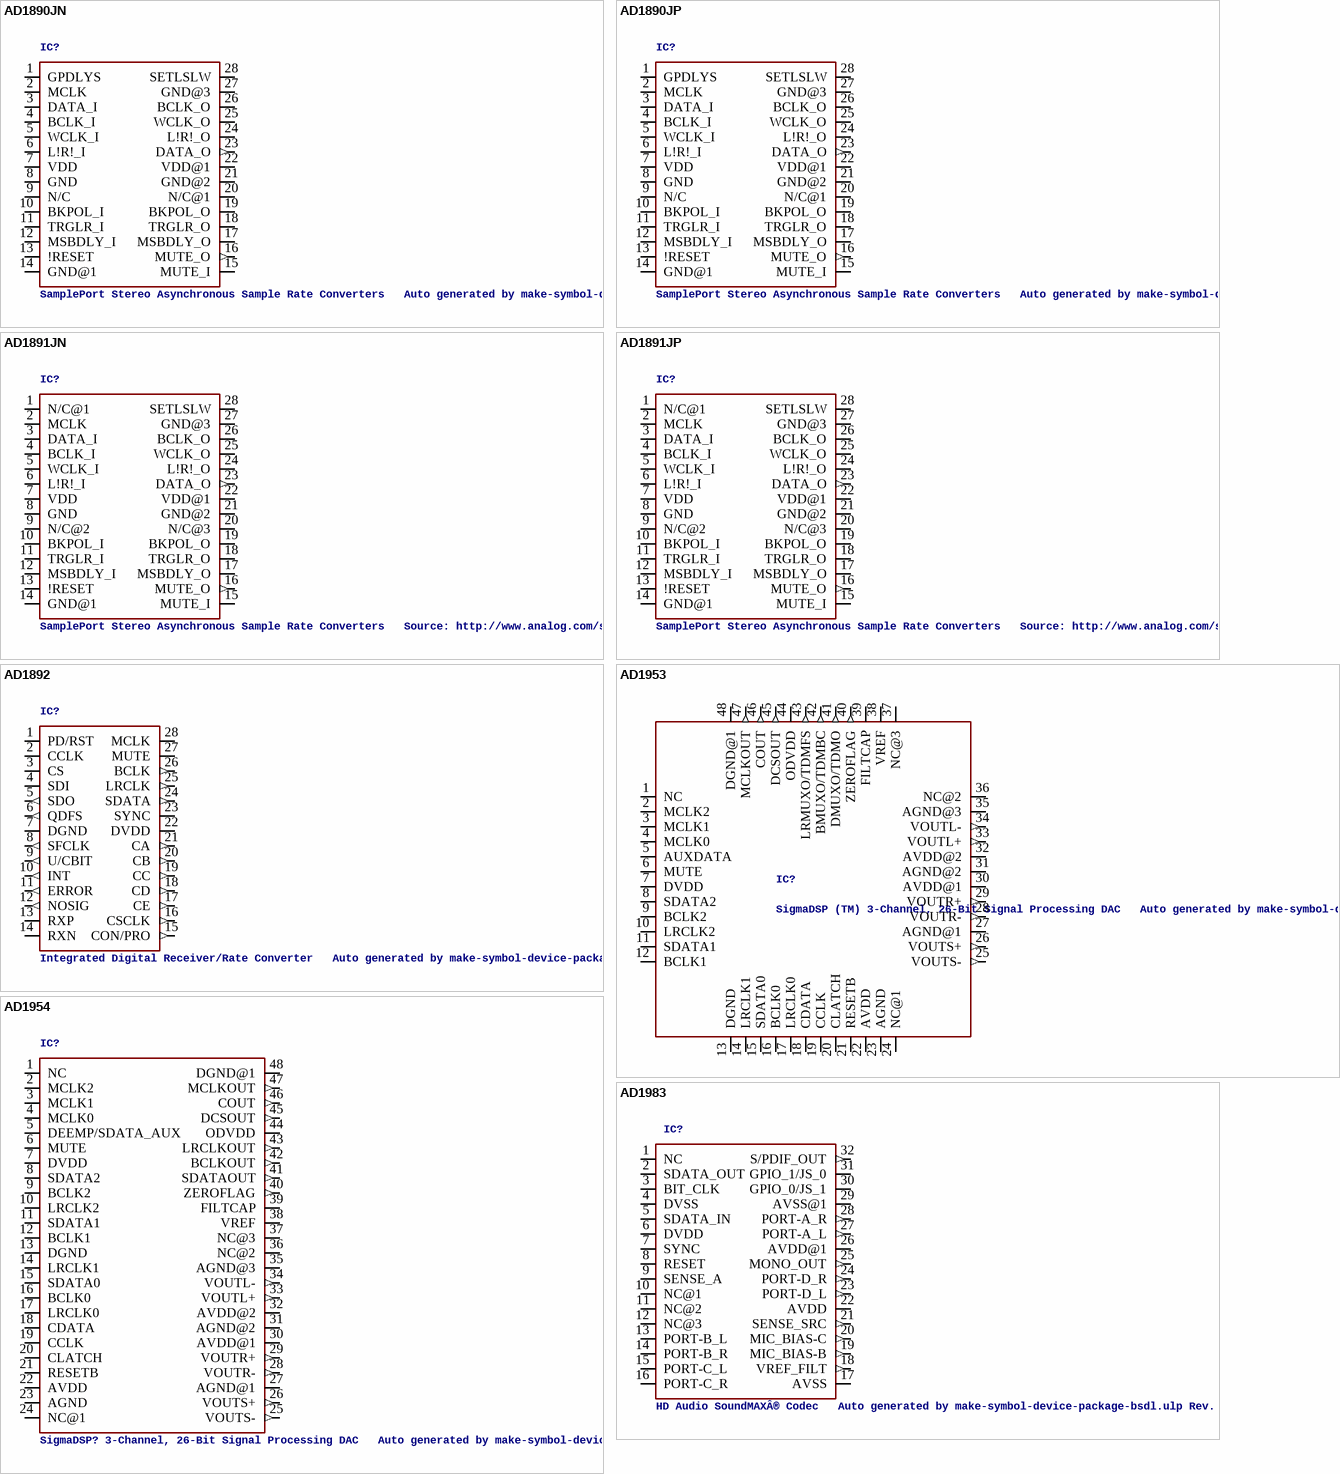
[diagram p5: symbols AD1890JN to AD1983]

## AD1890JN
designator IC?, comment SamplePort Stereo Asynchronous Sample Rate Converters   Auto generated by make-symbol-device-package-bsdl.ulp Rev. 33 Source: http://www.analog.com/static/imported-files/data_sheets/AD1890_1891.pdf
OC_FARNELL: unknown; OC_NEWARK: unknown
footprint DIL28-6
pins: 1 GPDLYS, 2 MCLK, 3 DATA_I, 4 BCLK_I, 5 WCLK_I, 6 L!R!_I, 7 VDD (power), 8 GND (power), 9 N/C, 10 BKPOL_I, 11 TRGLR_I, 12 MSBDLY_I, 13 !RESET, 14 GND@1 (power), 15 MUTE_I, 16 MUTE_O (out), 17 MSBDLY_O, 18 TRGLR_O, 19 BKPOL_O, 20 N/C@1, 21 GND@2 (power), 22 VDD@1 (power), 23 DATA_O (out), 24 L!R!_O, 25 WCLK_O, 26 BCLK_O, 27 GND@3 (power), 28 SETLSLW

## AD1890JP
designator IC?, comment SamplePort Stereo Asynchronous Sample Rate Converters   Auto generated by make-symbol-device-package-bsdl.ulp Rev. 33 Source: http://www.analog.com/static/imported-files/data_sheets/AD1890_1891.pdf
MPN: AD1890JP; MF: ALTERA CORPORATION; OC_FARNELL: 1464273; OC_NEWARK: 66F1855
footprint PLCC28S
pins: 1 GPDLYS, 2 MCLK, 3 DATA_I, 4 BCLK_I, 5 WCLK_I, 6 L!R!_I, 7 VDD (power), 8 GND (power), 9 N/C, 10 BKPOL_I, 11 TRGLR_I, 12 MSBDLY_I, 13 !RESET, 14 GND@1 (power), 15 MUTE_I, 16 MUTE_O (out), 17 MSBDLY_O, 18 TRGLR_O, 19 BKPOL_O, 20 N/C@1, 21 GND@2 (power), 22 VDD@1 (power), 23 DATA_O (out), 24 L!R!_O, 25 WCLK_O, 26 BCLK_O, 27 GND@3 (power), 28 SETLSLW

## AD1891JN
designator IC?, comment SamplePort Stereo Asynchronous Sample Rate Converters   Source: http://www.analog.com/static/imported-files/data_sheets/AD1890_1891.pdf
OC_FARNELL: unknown; OC_NEWARK: unknown
footprint DIL28-6
pins: 1 N/C@1, 2 MCLK, 3 DATA_I, 4 BCLK_I, 5 WCLK_I, 6 L!R!_I, 7 VDD (power), 8 GND (power), 9 N/C@2, 10 BKPOL_I, 11 TRGLR_I, 12 MSBDLY_I, 13 !RESET, 14 GND@1 (power), 15 MUTE_I, 16 MUTE_O (out), 17 MSBDLY_O, 18 TRGLR_O, 19 BKPOL_O, 20 N/C@3, 21 GND@2 (power), 22 VDD@1 (power), 23 DATA_O (out), 24 L!R!_O, 25 WCLK_O, 26 BCLK_O, 27 GND@3 (power), 28 SETLSLW

## AD1891JP
designator IC?, comment SamplePort Stereo Asynchronous Sample Rate Converters   Source: http://www.analog.com/static/imported-files/data_sheets/AD1890_1891.pdf
OC_FARNELL: unknown; OC_NEWARK: unknown
footprint PLCC28S
pins: 1 N/C@1, 2 MCLK, 3 DATA_I, 4 BCLK_I, 5 WCLK_I, 6 L!R!_I, 7 VDD (power), 8 GND (power), 9 N/C@2, 10 BKPOL_I, 11 TRGLR_I, 12 MSBDLY_I, 13 !RESET, 14 GND@1 (power), 15 MUTE_I, 16 MUTE_O (out), 17 MSBDLY_O, 18 TRGLR_O, 19 BKPOL_O, 20 N/C@3, 21 GND@2 (power), 22 VDD@1 (power), 23 DATA_O (out), 24 L!R!_O, 25 WCLK_O, 26 BCLK_O, 27 GND@3 (power), 28 SETLSLW

## AD1892
designator IC?, comment Integrated Digital Receiver/Rate Converter   Auto generated by make-symbol-device-package-bsdl.ulp Rev. 33 Source: http://www.analog.com/static/imported-files/data_sheets/AD1892.pdf
OC_FARNELL: unknown; OC_NEWARK: unknown
footprint SO-28R
pins: 1 PD/RST, 2 CCLK, 3 CS, 4 SDI, 5 SDO (out), 6 QDFS (out), 7 DGND (power), 8 SFCLK (out), 9 U/CBIT (out), 10 INT (out), 11 ERROR (out), 12 NOSIG (out), 13 RXP, 14 RXN, 15 CON/PRO (out), 16 CSCLK (out), 17 CE (out), 18 CD (out), 19 CC (out), 20 CB (out), 21 CA (out), 22 DVDD (power), 23 SYNC, 24 SDATA (out), 25 LRCLK (out), 26 BCLK (out), 27 MUTE, 28 MCLK

## AD1953
designator IC?, comment SigmaDSP (TM) 3-Channel, 26-Bit Signal Processing DAC   Auto generated by make-symbol-device-package-bsdl.ulp Rev. 33 Source: http://www.analog.com/static/imported-files/data_sheets/AD1953.pdf
MPN: AD1953YSTZRL7; OC_FARNELL: unknown; OC_NEWARK: 12M8457
footprint QFP-7X7-48
pins: 1 NC, 2 MCLK2, 3 MCLK1, 4 MCLK0, 5 AUXDATA, 6 MUTE, 7 DVDD (power), 8 SDATA2, 9 BCLK2, 10 LRCLK2, 11 SDATA1, 12 BCLK1, 13 DGND (power), 14 LRCLK1, 15 SDATA0, 16 BCLK0, 17 LRCLK0, 18 CDATA, 19 CCLK, 20 CLATCH, 21 RESETB, 22 AVDD (power), 23 AGND (power), 24 NC@1, 25 VOUTS- (out), 26 VOUTS+ (out), 27 AGND@1 (power), 28 VOUTR- (out), 29 VOUTR+ (out), 30 AVDD@1 (power), 31 AGND@2 (power), 32 AVDD@2 (power), 33 VOUTL+ (out), 34 VOUTL- (out), 35 AGND@3 (power), 36 NC@2, 37 NC@3, 38 VREF, 39 FILTCAP, 40 ZEROFLAG (out), 41 DMUXO/TDMO (out), 42 BMUXO/TDMBC (out), 43 LRMUXO/TDMFS (out), 44 ODVDD (power), 45 DCSOUT (out), 46 COUT (out), 47 MCLKOUT (out), 48 DGND@1 (power)

## AD1954
designator IC?, comment SigmaDSP? 3-Channel, 26-Bit Signal Processing DAC   Auto generated by make-symbol-device-package-bsdl.ulp Rev. 33 Source: http://www.analog.com/static/imported-files/data_sheets/AD1954.pdf
MPN: AD1954YSTZ; OC_FARNELL: unknown; OC_NEWARK: 12M8458
footprint LFCSP48
pins: 1 NC, 2 MCLK2, 3 MCLK1, 4 MCLK0, 5 DEEMP/SDATA_AUX, 6 MUTE, 7 DVDD (power), 8 SDATA2, 9 BCLK2, 10 LRCLK2, 11 SDATA1, 12 BCLK1, 13 DGND (power), 14 LRCLK1, 15 SDATA0, 16 BCLK0, 17 LRCLK0, 18 CDATA, 19 CCLK, 20 CLATCH, 21 RESETB, 22 AVDD (power), 23 AGND (power), 24 NC@1, 25 VOUTS- (out), 26 VOUTS+ (out), 27 AGND@1 (power), 28 VOUTR- (out), 29 VOUTR+ (out), 30 AVDD@1 (power), 31 AGND@2 (power), 32 AVDD@2 (power), 33 VOUTL+ (out), 34 VOUTL- (out), 35 AGND@3 (power), 36 NC@2, 37 NC@3, 38 VREF, 39 FILTCAP, 40 ZEROFLAG (out), 41 SDATAOUT (out), 42 BCLKOUT (out), 43 LRCLKOUT (out), 44 ODVDD (power), 45 DCSOUT (out), 46 COUT (out), 47 MCLKOUT (out), 48 DGND@1 (power)

## AD1983
designator IC?, comment HD Audio SoundMAXÂ® Codec   Auto generated by make-symbol-device-package-bsdl.ulp Rev. 33 Source: http://www.analog.com/static/imported-files/data_sheets/AD1983.pdf
OC_FARNELL: unknown; OC_NEWARK: unknown
footprint LFCSP32
pins: 1 NC, 2 SDATA_OUT, 3 BIT_CLK, 4 DVSS (power), 5 SDATA_IN, 6 DVDD (power), 7 SYNC, 8 RESET, 9 SENSE_A, 10 NC@1, 11 NC@2, 12 NC@3, 13 PORT-B_L, 14 PORT-B_R, 15 PORT-C_L, 16 PORT-C_R, 17 AVSS (power), 18 VREF_FILT (out), 19 MIC_BIAS-B (out), 20 MIC_BIAS-C (out), 21 SENSE_SRC (out), 22 AVDD (power), 23 PORT-D_L (out), 24 PORT-D_R (out), 25 MONO_OUT (out), 26 AVDD@1, 27 PORT-A_L (out), 28 PORT-A_R (out), 29 AVSS@1 (power), 30 GPIO_0/JS_1, 31 GPIO_1/JS_0, 32 S/PDIF_OUT (out)

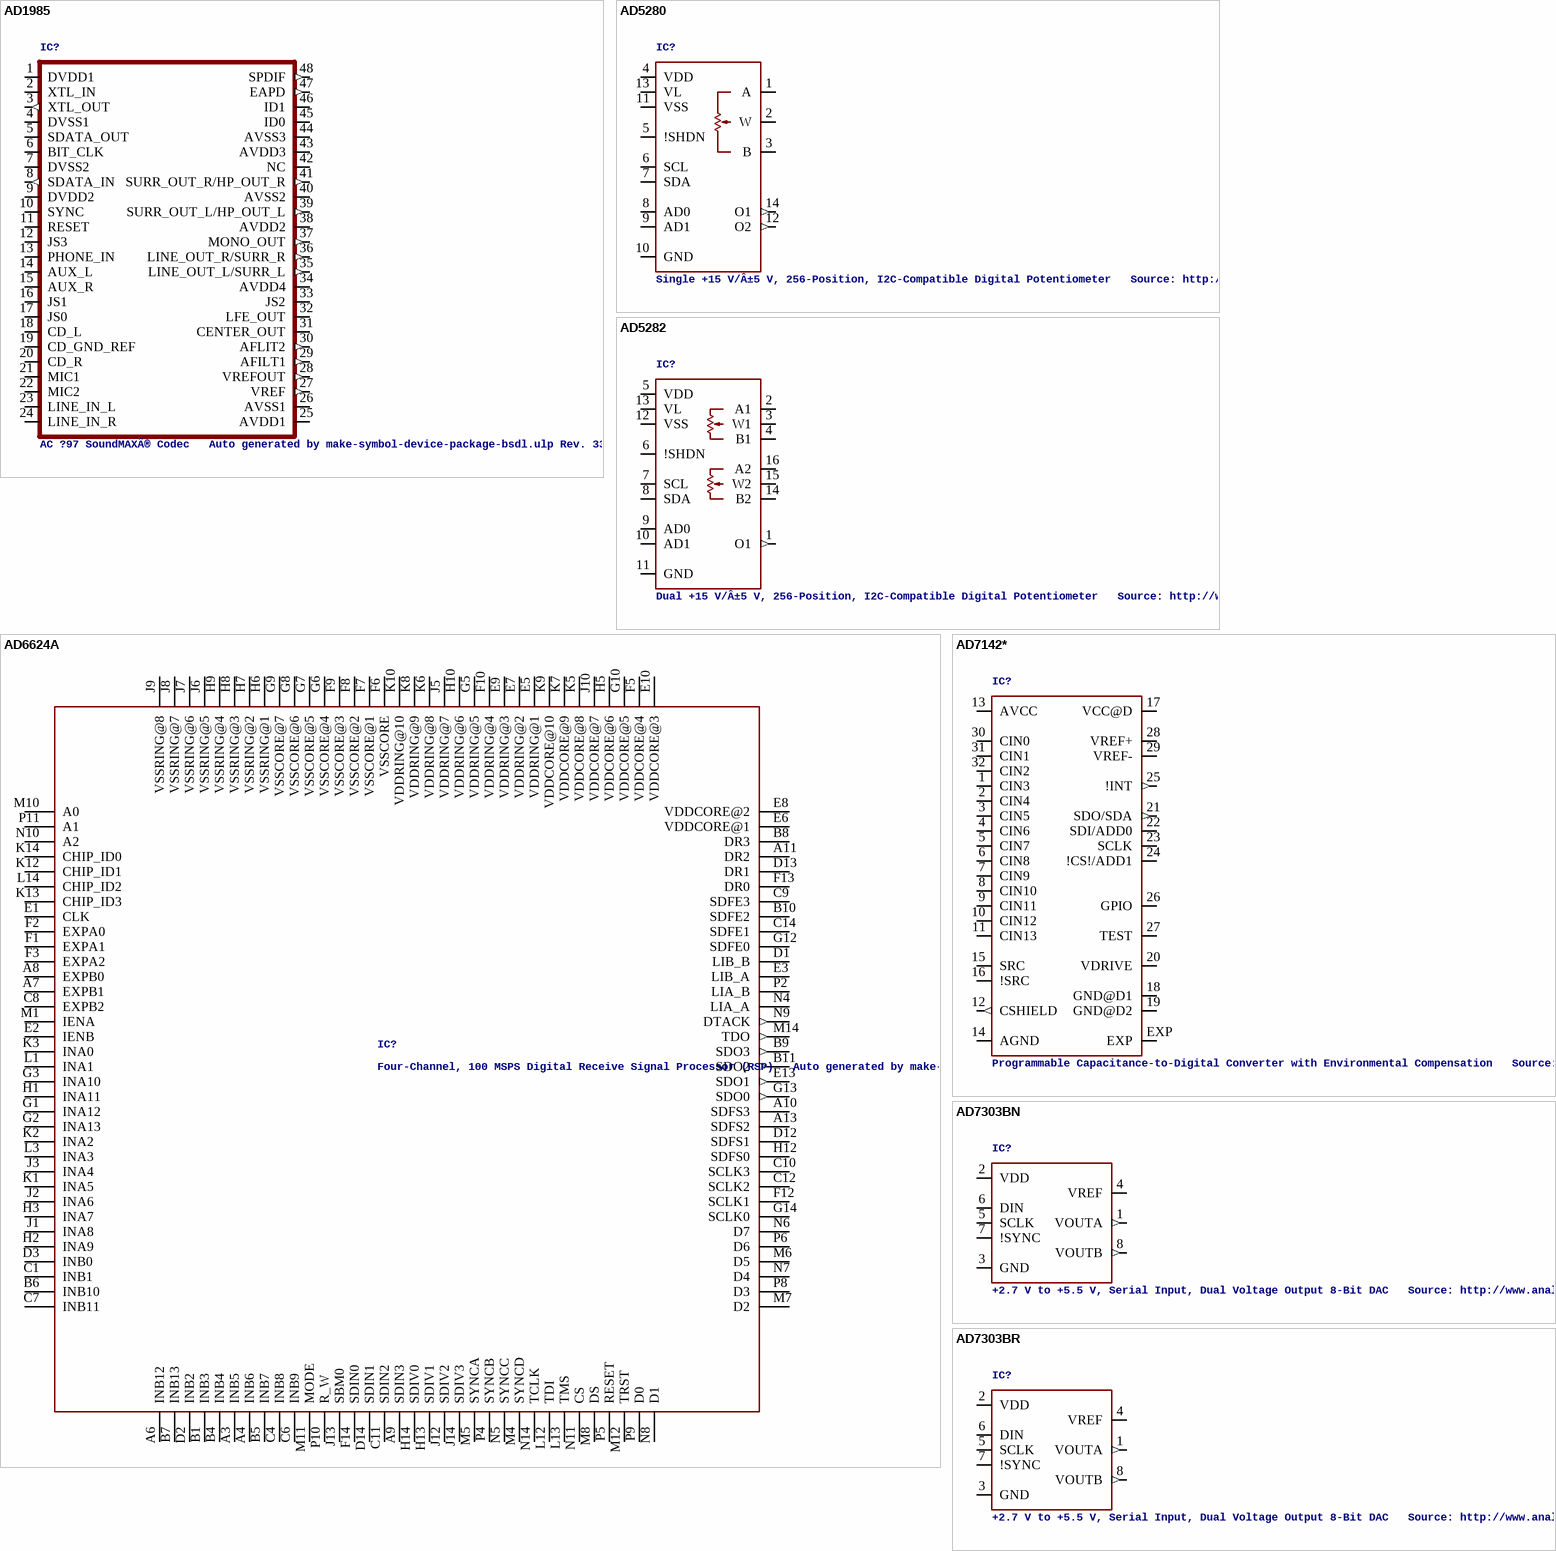
[diagram p6: symbols AD1985 to AD7303BR]

## AD1985
designator IC?, comment AC ?97 SoundMAXÂ® Codec   Auto generated by make-symbol-device-package-bsdl.ulp Rev. 33 Source: http://www.analog.com/static/imported-files/data_sheets/AD1985.pdf
OC_FARNELL: unknown; OC_NEWARK: unknown
footprint QFP-7X7-48
pins: 1 DVDD1, 2 XTL_IN, 3 XTL_OUT (out), 4 DVSS1, 5 SDATA_OUT, 6 BIT_CLK, 7 DVSS2, 8 SDATA_IN (out), 9 DVDD2, 10 SYNC, 11 RESET, 12 JS3, 13 PHONE_IN, 14 AUX_L, 15 AUX_R, 16 JS1, 17 JS0, 18 CD_L, 19 CD_GND_REF, 20 CD_R, 21 MIC1, 22 MIC2, 23 LINE_IN_L, 24 LINE_IN_R, 25 AVDD1, 26 AVSS1, 27 VREF (out), 28 VREFOUT (out), 29 AFILT1 (out), 30 AFLIT2 (out), 31 CENTER_OUT, 32 LFE_OUT, 33 JS2, 34 AVDD4, 35 LINE_OUT_L/SURR_L (out), 36 LINE_OUT_R/SURR_R (out), 37 MONO_OUT (out), 38 AVDD2, 39 SURR_OUT_L/HP_OUT_L (out), 40 AVSS2, 41 SURR_OUT_R/HP_OUT_R (out), 42 NC, 43 AVDD3, 44 AVSS3, 45 ID0, 46 ID1, 47 EAPD (out), 48 SPDIF (out)

## AD5280
designator IC?, comment Single +15 V/Â±5 V, 256-Position, I2C-Compatible Digital Potentiometer   Source: http://www.analog.com/static/imported-files/data_sheets/AD5280_5282.pdf
MPN: AD5280BRUZ20; MF: ALTERA CORPORATION; OC_FARNELL: 1464325; OC_NEWARK: 59K3840
footprint TSSOP14
pins: 1 A, 2 W, 3 B, 4 VDD (power), 5 !SHDN, 6 SCL, 7 SDA, 8 AD0, 9 AD1, 10 GND (power), 11 VSS (power), 12 O2 (out), 13 VL (power), 14 O1 (out)

## AD5282
designator IC?, comment Dual +15 V/Â±5 V, 256-Position, I2C-Compatible Digital Potentiometer   Source: http://www.analog.com/static/imported-files/data_sheets/AD5280_5282.pdf
MPN: AD5282BRUZ50; MF: ALTERA CORPORATION; OC_FARNELL: 1438442; OC_NEWARK: 59K3850
footprint TSSOP16
pins: 1 O1 (out), 2 A1, 3 W1, 4 B1, 5 VDD (power), 6 !SHDN, 7 SCL, 8 SDA, 9 AD0, 10 AD1, 11 GND (power), 12 VSS (power), 13 VL (power), 14 B2, 15 W2, 16 A2

## AD6624A
designator IC?, comment Four-Channel, 100 MSPS Digital Receive Signal Processor (RSP)   Auto generated by make-symbol-device-package-bsdl.ulp Rev. 11 Source: 90033586AD6624A.bsdl.txt http://www.analog.com/UploadedFiles/Data_Sheets/171976900AD6624A_0.pdf
MPN: AD6624AABC; MF: ALTERA CORPORATION; OC_FARNELL: unknown; OC_NEWARK: 94C0338
footprint PBGA196
pins: A3 INB5, A4 INB6, A6 INB12, A7 EXPB1, A8 EXPB0, A9 SDIN3, A10 SDFS3, A11 DR2 (hiz), A13 SDFS2, B1 INB3, B4 INB4, B5 INB7, B6 INB10, B7 INB13, B8 DR3 (hiz), B9 SDO3 (out), B10 SDFE2 (hiz), B11 SDO2 (out), C1 INB1, C4 INB8, C6 INB9, C7 INB11, C8 EXPB2, C9 SDFE3 (hiz), C10 SCLK3, C11 SDIN2, C12 SCLK2, C14 SDFE1 (hiz), D1 LIB_B (hiz), D2 INB2, D3 INB0, D12 SDFS1, D13 DR1 (hiz), D14 SDIN1, E1 CLK, E2 IENB, E3 LIB_A (hiz), E5 VDDRING@1 (power), E6 VDDCORE@1 (power), E7 VDDRING@2 (power), E8 VDDCORE@2 (power), E9 VDDRING@3 (power), E10 VDDCORE@3 (power), E13 SDO1 (out), F1 EXPA1, F2 EXPA0, F3 EXPA2, F5 VDDCORE@4 (power), F6 VSSCORE (power), F7 VSSCORE@1 (power), F8 VSSCORE@2 (power), F9 VSSCORE@3 (power), F10 VDDRING@4 (power), F12 SCLK1, F13 DR0 (hiz), F14 SDIN0, G1 INA12, G2 INA13, G3 INA10, G5 VDDRING@5 (power), G6 VSSCORE@4 (power), G7 VSSCORE@5 (power), G8 VSSCORE@6 (power), G9 VSSCORE@7 (power), G10 VDDCORE@5 (power), G12 SDFE0 (hiz), G13 SDO0 (out), G14 SCLK0, H1 INA11, H2 INA9, H3 INA7, H5 VDDCORE@6 (power), H6 VSSRING@1 (power), H7 VSSRING@2 (power), H8 VSSRING@3 (power), H9 VSSRING@4 (power), H10 VDDRING@6 (power), H12 SDFS0, H13 SDIV1, H14 SDIV0, J1 INA8, J2 INA6, J3 INA4, J5 VDDRING@7 (power), J6 VSSRING@5 (power), J7 VSSRING@6 (power), J8 VSSRING@7 (power), J9 VSSRING@8 (power), J10 VDDCORE@7 (power), J12 SDIV2, J13 SBM0, J14 SDIV3, K1 INA5, K2 INA2, K3 INA0, K5 VDDCORE@8 (power), K6 VDDRING@8 (power), K7 VDDCORE@9 (power), K8 VDDRING@9 (power), K9 VDDCORE@10 (power), K10 VDDRING@10 (power), K12 CHIP_ID1, K13 CHIP_ID3, K14 CHIP_ID0, L1 INA1, L3 INA3, L12 TDI, L13 TMS, L14 CHIP_ID2, M1 IENA, M4 SYNCD, M5 SYNCA, M6 D5, M7 D2, M8 DS, M10 A0, M11 MODE, M12 TRST, M14 TDO (out), N4 LIA_A (hiz), N5 SYNCC, N6 D7, N7 D4, N8 D1, N9 DTACK (out), N10 A2, N11 CS, N14 TCLK, P2 LIA_B (hiz), P4 SYNCB, P5 RESET, P6 D6, P8 D3, P9 D0, P10 R_W, P11 A1

## AD7142*
designator IC?, comment Programmable Capacitance-to-Digital Converter with Environmental Compensation   Source: http://www.analog.com/UploadedFiles/Data_Sheets/762180021AD7142_42_1_prd.pdf
MPN: AD7142ACPZ; OC_FARNELL: 1498724; OC_NEWARK: 15P0769
footprint LFCSP32
pins: 1 CIN3, 2 CIN4, 3 CIN5, 4 CIN6, 5 CIN7, 6 CIN8, 7 CIN9, 8 CIN10, 9 CIN11, 10 CIN12, 11 CIN13, 12 CSHIELD (out), 13 AVCC, 14 AGND, 15 SRC, 16 !SRC, 17 VCC@D (power), 18 GND@D1 (power), 19 GND@D2 (power), 20 VDRIVE, 21 SDO/SDA (out), 22 SDI/ADD0, 23 SCLK, 24 !CS!/ADD1, 25 !INT (out), 26 GPIO, 27 TEST, 28 VREF+, 29 VREF-, 30 CIN0, 31 CIN1, 32 CIN2, EXP

## AD7303BN
designator IC?, comment +2.7 V to +5.5 V, Serial Input, Dual Voltage Output 8-Bit DAC   Source: http://www.analog.com/UploadedFiles/Data_Sheets/AD7303.pdf
MPN: AD7303BNZ; OC_FARNELL: 1079413; OC_NEWARK: 19M0854
footprint DIL08
pins: 1 VOUTA (out), 2 VDD (power), 3 GND (power), 4 VREF, 5 SCLK, 6 DIN, 7 !SYNC, 8 VOUTB (out)

## AD7303BR
designator IC?, comment +2.7 V to +5.5 V, Serial Input, Dual Voltage Output 8-Bit DAC   Source: http://www.analog.com/UploadedFiles/Data_Sheets/AD7303.pdf
MPN: AD7303BRZ; OC_FARNELL: 1838896; OC_NEWARK: 19M8835
footprint SO8
pins: 1 VOUTA (out), 2 VDD (power), 3 GND (power), 4 VREF, 5 SCLK, 6 DIN, 7 !SYNC, 8 VOUTB (out)

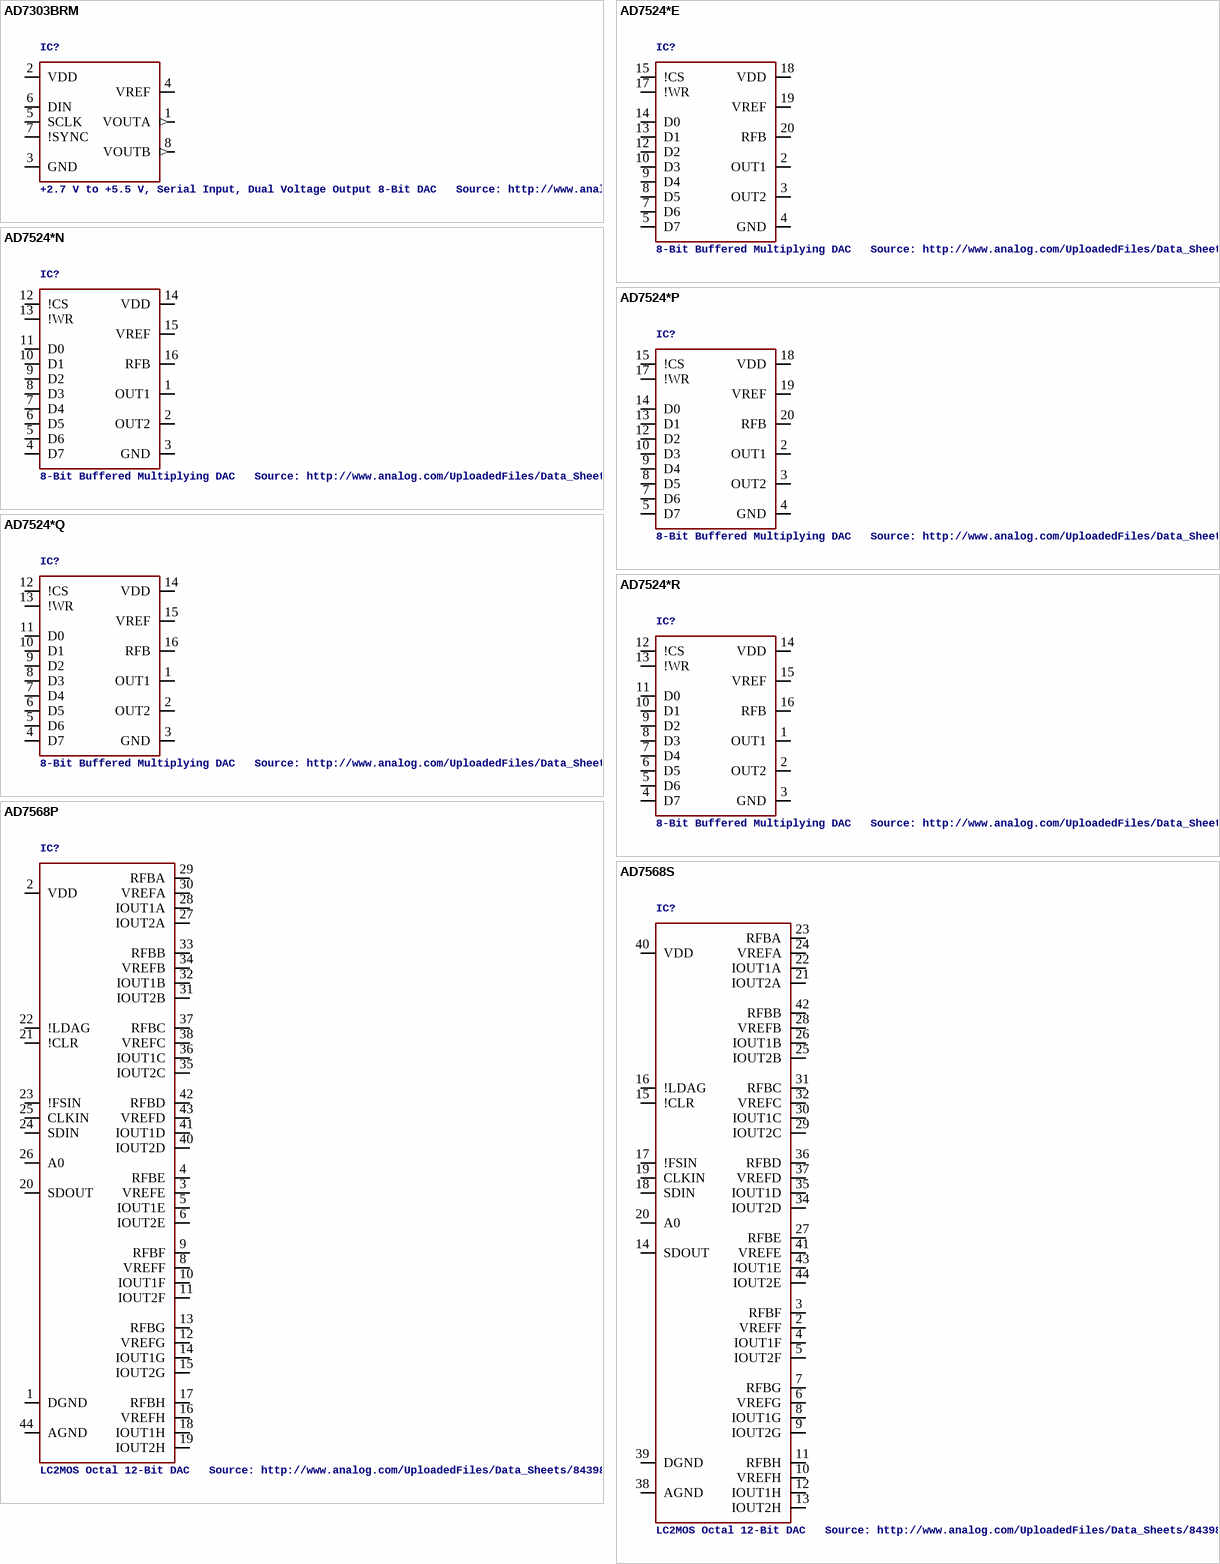
[diagram p7: symbols AD7303BRM to AD7568S]

## AD7303BRM
designator IC?, comment +2.7 V to +5.5 V, Serial Input, Dual Voltage Output 8-Bit DAC   Source: http://www.analog.com/UploadedFiles/Data_Sheets/AD7303.pdf
MPN: AD7303BRMZ; MF: ALTERA CORPORATION; OC_FARNELL: 1464525; OC_NEWARK: 59K4694
footprint MSOP08
pins: 1 VOUTA (out), 2 VDD (power), 3 GND (power), 4 VREF, 5 SCLK, 6 DIN, 7 !SYNC, 8 VOUTB (out)

## AD7524*E
designator IC?, comment 8-Bit Buffered Multiplying DAC   Source: http://www.analog.com/UploadedFiles/Data_Sheets/888358036ad7524.pdf
MPN: AD7524JP; MPN: AD7524KP; MF: ALTERA CORPORATION; OC_FARNELL: unknown; OC_NEWARK: 05F7382; OC_FARNELL: 1464569; OC_NEWARK: 09B5764
footprint LCC20
pins: 2 OUT1, 3 OUT2, 4 GND (power), 5 D7, 7 D6, 8 D5, 9 D4, 10 D3, 12 D2, 13 D1, 14 D0, 15 !CS, 17 !WR, 18 VDD (power), 19 VREF, 20 RFB

## AD7524*N
designator IC?, comment 8-Bit Buffered Multiplying DAC   Source: http://www.analog.com/UploadedFiles/Data_Sheets/888358036ad7524.pdf
MPN: AD7524JNZ; MPN: AD7524KNZ; MPN: AD7524LNZ; MF: ALTERA CORPORATION; OC_FARNELL: 9605401; OC_NEWARK: 59K4969; OC_FARNELL: 1464568; OC_NEWARK: 59K4973; OC_NEWARK: 59K4974
footprint DIL16
pins: 1 OUT1, 2 OUT2, 3 GND (power), 4 D7, 5 D6, 6 D5, 7 D4, 8 D3, 9 D2, 10 D1, 11 D0, 12 !CS, 13 !WR, 14 VDD (power), 15 VREF, 16 RFB

## AD7524*P
designator IC?, comment 8-Bit Buffered Multiplying DAC   Source: http://www.analog.com/UploadedFiles/Data_Sheets/888358036ad7524.pdf
MPN: AD7524JP; MPN: AD7524LP; MF: ALTERA CORPORATION; OC_FARNELL: 1464569; OC_NEWARK: 05F7382; OC_NEWARK: unknown; OC_NEWARK: 09B5765
footprint PLCC20
pins: 2 OUT1, 3 OUT2, 4 GND (power), 5 D7, 7 D6, 8 D5, 9 D4, 10 D3, 12 D2, 13 D1, 14 D0, 15 !CS, 17 !WR, 18 VDD (power), 19 VREF, 20 RFB

## AD7524*Q
designator IC?, comment 8-Bit Buffered Multiplying DAC   Source: http://www.analog.com/UploadedFiles/Data_Sheets/888358036ad7524.pdf
MPN: AD7524AQ; MPN: AD7524KP; MPN: AD7524TQ; MPN: AD7524SQ; MF: ALTERA CORPORATION; OC_FARNELL: 1464568; OC_NEWARK: 05F7379; OC_FARNELL: 9605401; OC_NEWARK: 09B5764; OC_FARNELL: 1523901; OC_NEWARK: 16F3371; OC_NEWARK: 16F3370
footprint DIL16
pins: 1 OUT1, 2 OUT2, 3 GND (power), 4 D7, 5 D6, 6 D5, 7 D4, 8 D3, 9 D2, 10 D1, 11 D0, 12 !CS, 13 !WR, 14 VDD (power), 15 VREF, 16 RFB

## AD7524*R
designator IC?, comment 8-Bit Buffered Multiplying DAC   Source: http://www.analog.com/UploadedFiles/Data_Sheets/888358036ad7524.pdf
MPN: AD7524JRZ; MF: ALTERA CORPORATION; OC_FARNELL: 1423882; OC_NEWARK: 59K4970
footprint SOIC16N
pins: 1 OUT1, 2 OUT2, 3 GND (power), 4 D7, 5 D6, 6 D5, 7 D4, 8 D3, 9 D2, 10 D1, 11 D0, 12 !CS, 13 !WR, 14 VDD (power), 15 VREF, 16 RFB

## AD7568P
designator IC?, comment LC2MOS Octal 12-Bit DAC   Source: http://www.analog.com/UploadedFiles/Data_Sheets/843987253ad7568.pdf
MPN: AD7568BP; OC_FARNELL: unknown; OC_NEWARK: 09B5836
footprint PLCC44
pins: 1 DGND (power), 2 VDD (power), 3 VREFE, 4 RFBE, 5 IOUT1E, 6 IOUT2E, 8 VREFF, 9 RFBF, 10 IOUT1F, 11 IOUT2F, 12 VREFG, 13 RFBG, 14 IOUT1G, 15 IOUT2G, 16 VREFH, 17 RFBH, 18 IOUT1H, 19 IOUT2H, 20 SDOUT, 21 !CLR, 22 !LDAG, 23 !FSIN, 24 SDIN, 25 CLKIN, 26 A0, 27 IOUT2A, 28 IOUT1A, 29 RFBA, 30 VREFA, 31 IOUT2B, 32 IOUT1B, 33 RFBB, 34 VREFB, 35 IOUT2C, 36 IOUT1C, 37 RFBC, 38 VREFC, 40 IOUT2D, 41 IOUT1D, 42 RFBD, 43 VREFD, 44 AGND (power)

## AD7568S
designator IC?, comment LC2MOS Octal 12-Bit DAC   Source: http://www.analog.com/UploadedFiles/Data_Sheets/843987253ad7568.pdf
MPN: AD7568BSZ; MF: ALTERA CORPORATION; OC_FARNELL: 1311330; OC_NEWARK: 59K5056
footprint PQFP44
pins: 2 VREFF, 3 RFBF, 4 IOUT1F, 5 IOUT2F, 6 VREFG, 7 RFBG, 8 IOUT1G, 9 IOUT2G, 10 VREFH, 11 RFBH, 12 IOUT1H, 13 IOUT2H, 14 SDOUT, 15 !CLR, 16 !LDAG, 17 !FSIN, 18 SDIN, 19 CLKIN, 20 A0, 21 IOUT2A, 22 IOUT1A, 23 RFBA, 24 VREFA, 25 IOUT2B, 26 IOUT1B, 27 RFBE, 28 VREFB, 29 IOUT2C, 30 IOUT1C, 31 RFBC, 32 VREFC, 34 IOUT2D, 35 IOUT1D, 36 RFBD, 37 VREFD, 38 AGND (power), 39 DGND (power), 40 VDD (power), 41 VREFE, 42 RFBB, 43 IOUT1E, 44 IOUT2E

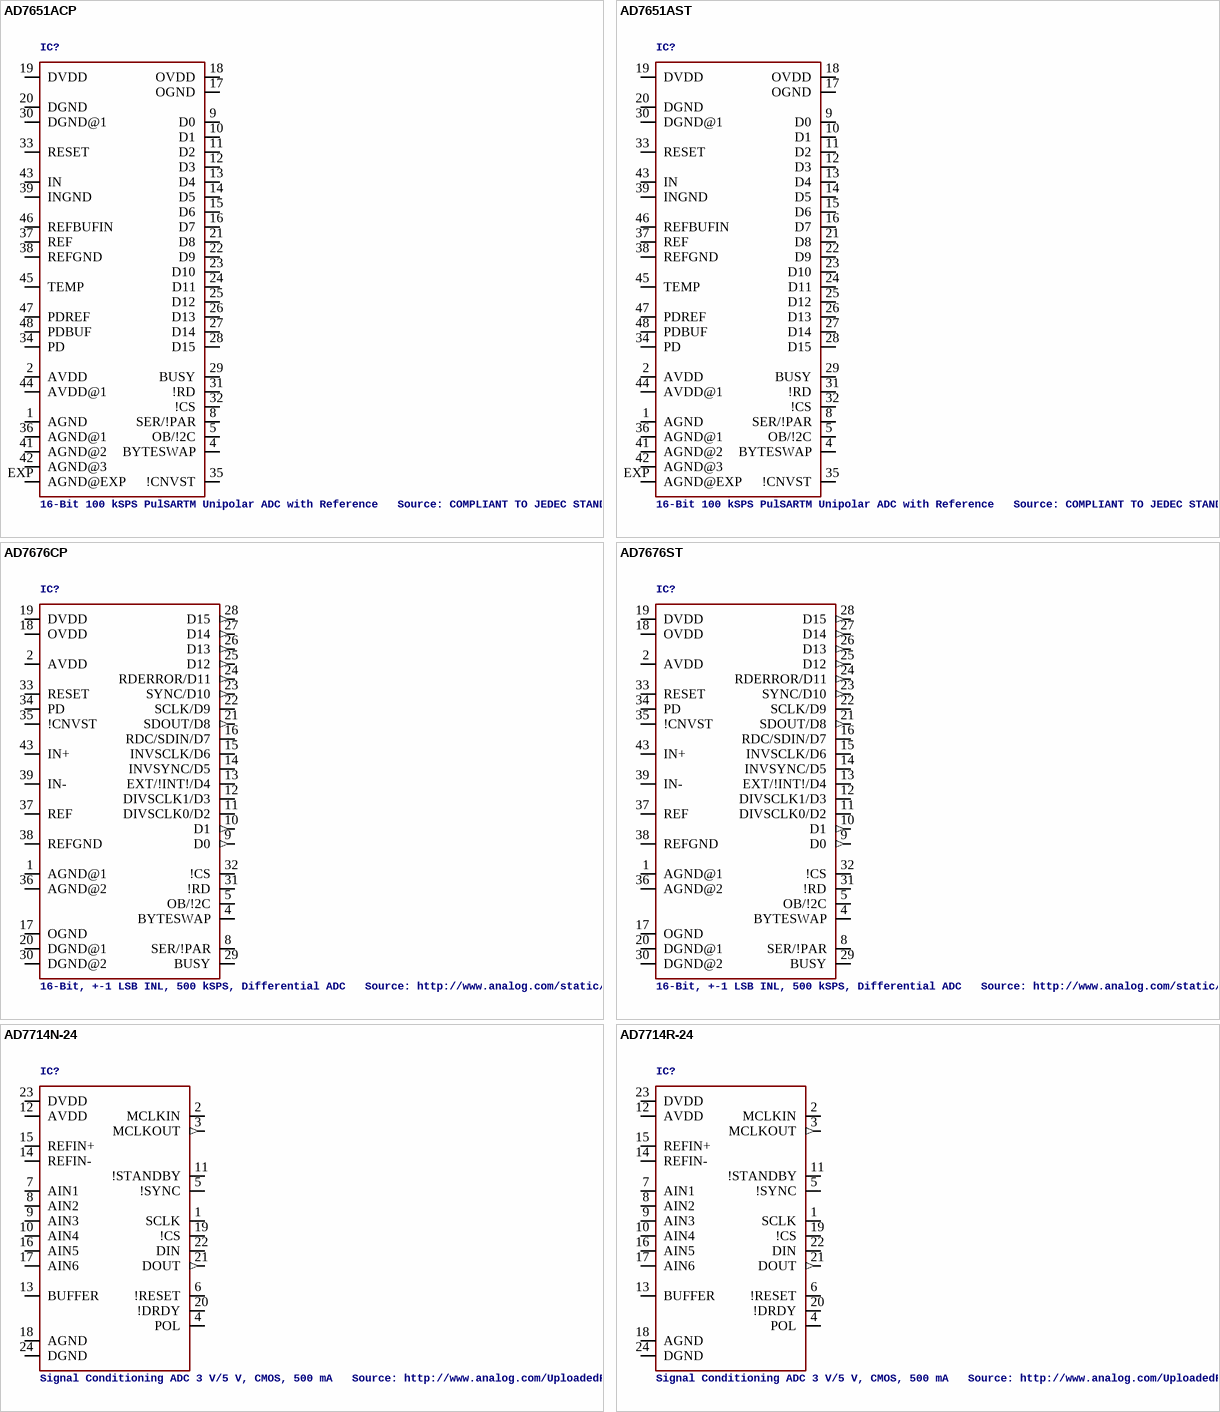
[diagram p8: symbols AD7651ACP to AD7714R-24]

## AD7651ACP
designator IC?, comment 16-Bit 100 kSPS PulSARTM Unipolar ADC with Reference   Source: COMPLIANT TO JEDEC STANDARDS MO-220-VKKD-2
OC_FARNELL: unknown; OC_NEWARK: unknown
footprint LFCSP48
pins: 1 AGND, 2 AVDD, 4 BYTESWAP, 5 OB/!2C, 8 SER/!PAR, 9 D0, 10 D1, 11 D2, 12 D3, 13 D4, 14 D5, 15 D6, 16 D7, 17 OGND, 18 OVDD, 19 DVDD, 20 DGND, 21 D8, 22 D9, 23 D10, 24 D11, 25 D12, 26 D13, 27 D14, 28 D15, 29 BUSY, 30 DGND@1, 31 !RD, 32 !CS, 33 RESET, 34 PD, 35 !CNVST, 36 AGND@1, 37 REF, 38 REFGND, 39 INGND, 41 AGND@2, 42 AGND@3, 43 IN, 44 AVDD@1, 45 TEMP, 46 REFBUFIN, 47 PDREF, 48 PDBUF, EXP AGND@EXP

## AD7651AST
designator IC?, comment 16-Bit 100 kSPS PulSARTM Unipolar ADC with Reference   Source: COMPLIANT TO JEDEC STANDARDS MO-220-VKKD-2
MPN: AD7651ASTZ; OC_FARNELL: 1581929; OC_NEWARK: 15P0825
footprint QFP-7X7-48
pins: 1 AGND, 2 AVDD, 4 BYTESWAP, 5 OB/!2C, 8 SER/!PAR, 9 D0, 10 D1, 11 D2, 12 D3, 13 D4, 14 D5, 15 D6, 16 D7, 17 OGND, 18 OVDD, 19 DVDD, 20 DGND, 21 D8, 22 D9, 23 D10, 24 D11, 25 D12, 26 D13, 27 D14, 28 D15, 29 BUSY, 30 DGND@1, 31 !RD, 32 !CS, 33 RESET, 34 PD, 35 !CNVST, 36 AGND@1, 37 REF, 38 REFGND, 39 INGND, 41 AGND@2, 42 AGND@3, 43 IN, 44 AVDD@1, 45 TEMP, 46 REFBUFIN, 47 PDREF, 48 PDBUF, EXP AGND@EXP

## AD7676CP
designator IC?, comment 16-Bit, +-1 LSB INL, 500 kSPS, Differential ADC   Source: http://www.analog.com/static/imported-files/data_sheets/AD7676.pdf
MPN: AD7676ASTZ; MF: ALTERA CORPORATION; OC_FARNELL: 1464604; OC_NEWARK: 59K5190
footprint LFCSP48
pins: 1 AGND@1, 2 AVDD, 4 BYTESWAP, 5 OB/!2C, 8 SER/!PAR, 9 D0 (out), 10 D1 (out), 11 DIVSCLK0/D2, 12 DIVSCLK1/D3, 13 EXT/!INT!/D4, 14 INVSYNC/D5, 15 INVSCLK/D6, 16 RDC/SDIN/D7, 17 OGND, 18 OVDD, 19 DVDD, 20 DGND@1, 21 SDOUT/D8 (out), 22 SCLK/D9, 23 SYNC/D10 (out), 24 RDERROR/D11 (out), 25 D12 (out), 26 D13 (out), 27 D14 (out), 28 D15 (out), 29 BUSY, 30 DGND@2, 31 !RD, 32 !CS, 33 RESET, 34 PD, 35 !CNVST, 36 AGND@2, 37 REF, 38 REFGND, 39 IN-, 43 IN+

## AD7676ST
designator IC?, comment 16-Bit, +-1 LSB INL, 500 kSPS, Differential ADC   Source: http://www.analog.com/static/imported-files/data_sheets/AD7676.pdf
MPN: AD7676ASTZRL; MF: ALTERA CORPORATION; OC_FARNELL: unknown; OC_NEWARK: 59K5191
footprint QFP-7X7-48
pins: 1 AGND@1, 2 AVDD, 4 BYTESWAP, 5 OB/!2C, 8 SER/!PAR, 9 D0 (out), 10 D1 (out), 11 DIVSCLK0/D2, 12 DIVSCLK1/D3, 13 EXT/!INT!/D4, 14 INVSYNC/D5, 15 INVSCLK/D6, 16 RDC/SDIN/D7, 17 OGND, 18 OVDD, 19 DVDD, 20 DGND@1, 21 SDOUT/D8 (out), 22 SCLK/D9, 23 SYNC/D10 (out), 24 RDERROR/D11 (out), 25 D12 (out), 26 D13 (out), 27 D14 (out), 28 D15 (out), 29 BUSY, 30 DGND@2, 31 !RD, 32 !CS, 33 RESET, 34 PD, 35 !CNVST, 36 AGND@2, 37 REF, 38 REFGND, 39 IN-, 43 IN+

## AD7714N-24
designator IC?, comment Signal Conditioning ADC 3 V/5 V, CMOS, 500 mA   Source: http://www.analog.com/UploadedFiles/Data_Sheets/39677768AD7714_c.pdf
MPN: AD7714AN-5; MF: ALTERA CORPORATION; OC_FARNELL: unknown; OC_NEWARK: 66F5871
footprint DIL24-3
pins: 1 SCLK, 2 MCLKIN, 3 MCLKOUT (out), 4 POL, 5 !SYNC, 6 !RESET, 7 AIN1, 8 AIN2, 9 AIN3, 10 AIN4, 11 !STANDBY, 12 AVDD, 13 BUFFER, 14 REFIN-, 15 REFIN+, 16 AIN5, 17 AIN6, 18 AGND, 19 !CS, 20 !DRDY, 21 DOUT (out), 22 DIN, 23 DVDD, 24 DGND

## AD7714R-24
designator IC?, comment Signal Conditioning ADC 3 V/5 V, CMOS, 500 mA   Source: http://www.analog.com/UploadedFiles/Data_Sheets/39677768AD7714_c.pdf
OC_FARNELL: unknown; OC_NEWARK: unknown
footprint SO24R
pins: 1 SCLK, 2 MCLKIN, 3 MCLKOUT (out), 4 POL, 5 !SYNC, 6 !RESET, 7 AIN1, 8 AIN2, 9 AIN3, 10 AIN4, 11 !STANDBY, 12 AVDD, 13 BUFFER, 14 REFIN-, 15 REFIN+, 16 AIN5, 17 AIN6, 18 AGND, 19 !CS, 20 !DRDY, 21 DOUT (out), 22 DIN, 23 DVDD, 24 DGND

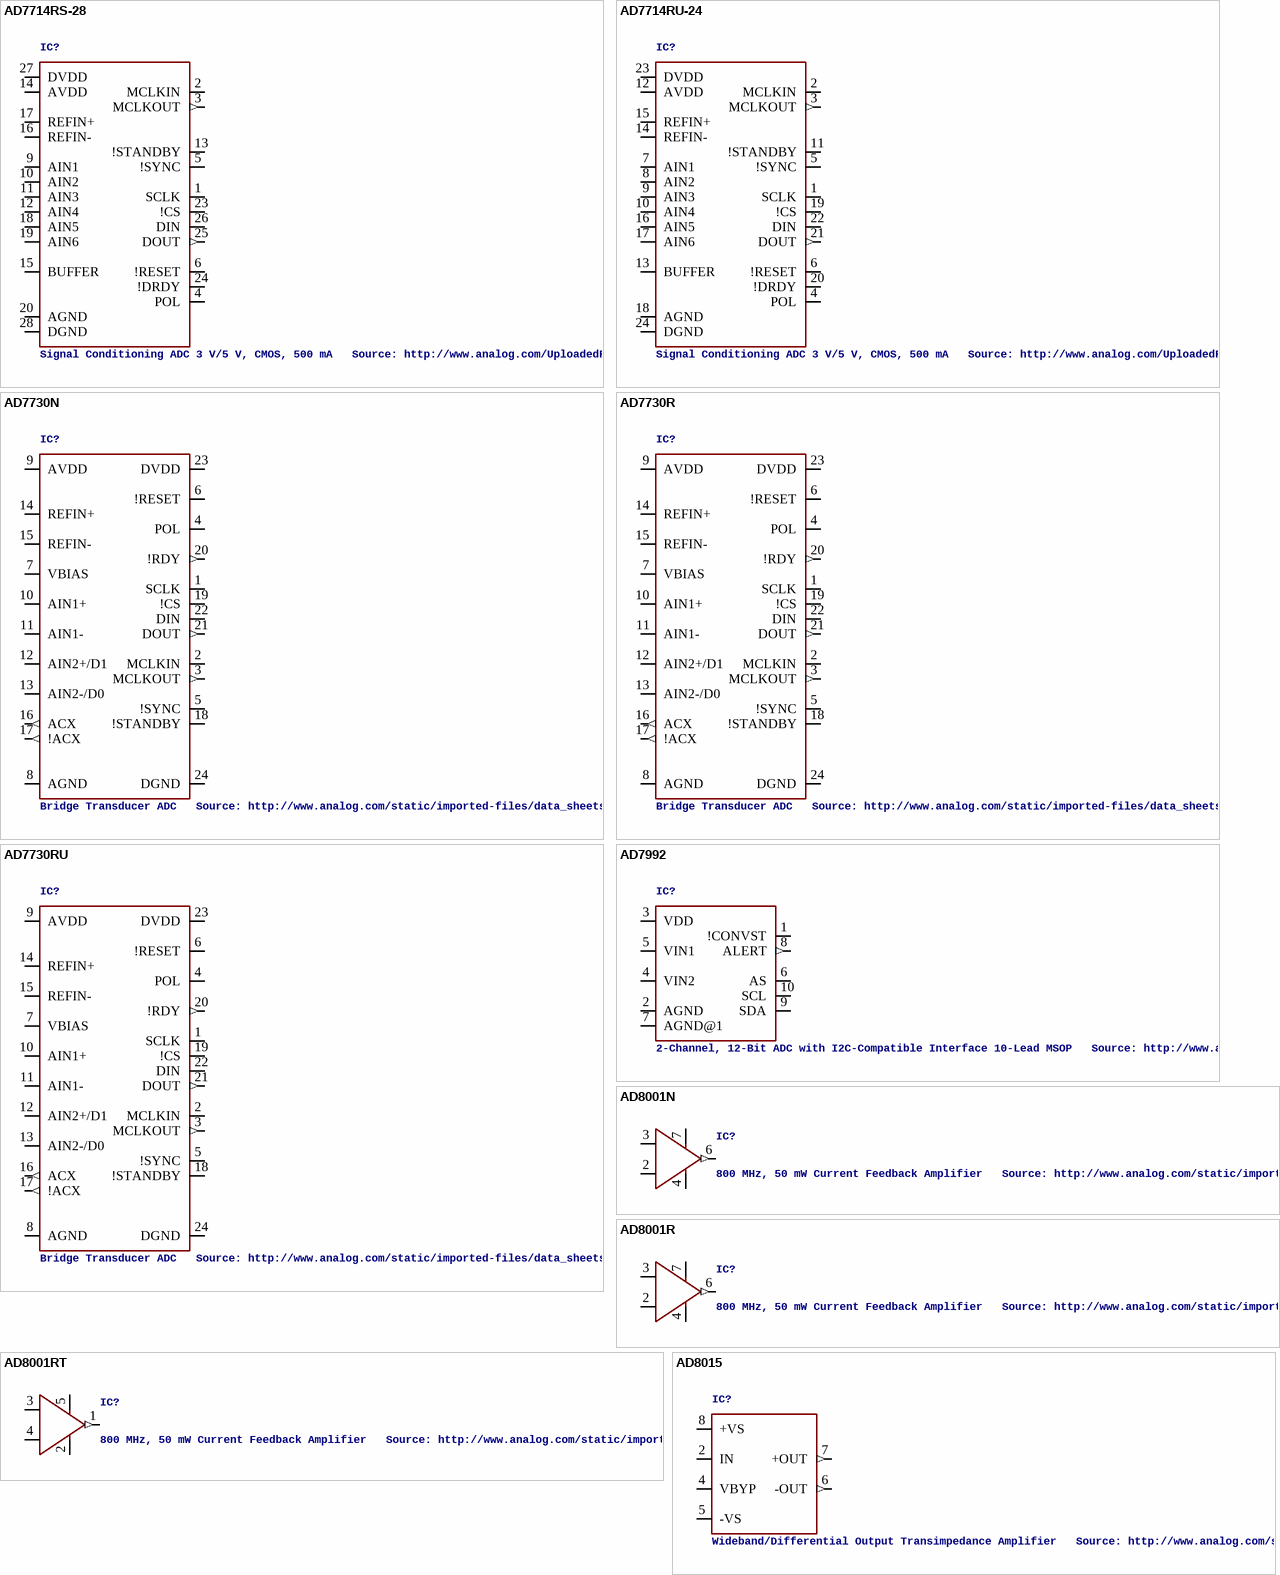
[diagram p9: symbols AD7714RS-28 to AD8015]

## AD7714RS-28
designator IC?, comment Signal Conditioning ADC 3 V/5 V, CMOS, 500 mA   Source: http://www.analog.com/UploadedFiles/Data_Sheets/39677768AD7714_c.pdf
MPN: AD7714ARS-3; MF: ALTERA CORPORATION; OC_FARNELL: 1423921; OC_NEWARK: 52F2117
footprint SSOP28
pins: 1 SCLK, 2 MCLKIN, 3 MCLKOUT (out), 4 POL, 5 !SYNC, 6 !RESET, 9 AIN1, 10 AIN2, 11 AIN3, 12 AIN4, 13 !STANDBY, 14 AVDD, 15 BUFFER, 16 REFIN-, 17 REFIN+, 18 AIN5, 19 AIN6, 20 AGND, 23 !CS, 24 !DRDY, 25 DOUT (out), 26 DIN, 27 DVDD, 28 DGND

## AD7714RU-24
designator IC?, comment Signal Conditioning ADC 3 V/5 V, CMOS, 500 mA   Source: http://www.analog.com/UploadedFiles/Data_Sheets/39677768AD7714_c.pdf
MPN: AD7714YRUZ; OC_FARNELL: 1438857; OC_NEWARK: 19M8848
footprint TSSOP24
pins: 1 SCLK, 2 MCLKIN, 3 MCLKOUT (out), 4 POL, 5 !SYNC, 6 !RESET, 7 AIN1, 8 AIN2, 9 AIN3, 10 AIN4, 11 !STANDBY, 12 AVDD, 13 BUFFER, 14 REFIN-, 15 REFIN+, 16 AIN5, 17 AIN6, 18 AGND, 19 !CS, 20 !DRDY, 21 DOUT (out), 22 DIN, 23 DVDD, 24 DGND

## AD7730N
designator IC?, comment Bridge Transducer ADC   Source: http://www.analog.com/static/imported-files/data_sheets/AD7730_7730L.pdf
MPN: AD7730BN; MF: ALTERA CORPORATION; OC_FARNELL: 9605487; OC_NEWARK: 48F1987
footprint DIL24-3
pins: 1 SCLK, 2 MCLKIN, 3 MCLKOUT (out), 4 POL, 5 !SYNC, 6 !RESET, 7 VBIAS, 8 AGND, 9 AVDD, 10 AIN1+, 11 AIN1-, 12 AIN2+/D1, 13 AIN2-/D0, 14 REFIN+, 15 REFIN-, 16 ACX (out), 17 !ACX (out), 18 !STANDBY, 19 !CS, 20 !RDY (out), 21 DOUT (out), 22 DIN, 23 DVDD, 24 DGND

## AD7730R
designator IC?, comment Bridge Transducer ADC   Source: http://www.analog.com/static/imported-files/data_sheets/AD7730_7730L.pdf
MPN: AD7730LBRZ; MF: ALTERA CORPORATION; OC_FARNELL: 1079295; OC_NEWARK: 59K5383
footprint SO24R
pins: 1 SCLK, 2 MCLKIN, 3 MCLKOUT (out), 4 POL, 5 !SYNC, 6 !RESET, 7 VBIAS, 8 AGND, 9 AVDD, 10 AIN1+, 11 AIN1-, 12 AIN2+/D1, 13 AIN2-/D0, 14 REFIN+, 15 REFIN-, 16 ACX (out), 17 !ACX (out), 18 !STANDBY, 19 !CS, 20 !RDY (out), 21 DOUT (out), 22 DIN, 23 DVDD, 24 DGND

## AD7730RU
designator IC?, comment Bridge Transducer ADC   Source: http://www.analog.com/static/imported-files/data_sheets/AD7730_7730L.pdf
MPN: AD7730BRUZ; MF: ALTERA CORPORATION; OC_FARNELL: 1423932; OC_NEWARK: 59K5374
footprint TSSOP24
pins: 1 SCLK, 2 MCLKIN, 3 MCLKOUT (out), 4 POL, 5 !SYNC, 6 !RESET, 7 VBIAS, 8 AGND, 9 AVDD, 10 AIN1+, 11 AIN1-, 12 AIN2+/D1, 13 AIN2-/D0, 14 REFIN+, 15 REFIN-, 16 ACX (out), 17 !ACX (out), 18 !STANDBY, 19 !CS, 20 !RDY (out), 21 DOUT (out), 22 DIN, 23 DVDD, 24 DGND

## AD7992
designator IC?, comment 2-Channel, 12-Bit ADC with I2C-Compatible Interface 10-Lead MSOP   Source: http://www.analog.com/UploadedFiles/Data_Sheets/224965274AD7992_0.pdf
MPN: AD7992BRMZ-0; OC_FARNELL: 1078311; OC_NEWARK: 31M4422
footprint MSOP10
pins: 1 !CONVST, 2 AGND (power), 3 VDD (power), 4 VIN2, 5 VIN1, 6 AS, 7 AGND@1 (power), 8 ALERT (out), 9 SDA, 10 SCL

## AD8001N
designator IC?, comment 800 MHz, 50 mW Current Feedback Amplifier   Source: http://www.analog.com/static/imported-files/data_sheets/AD8001.pdf
MPN: AD8001ANZ; OC_FARNELL: 9605304; OC_NEWARK: 19M0911
footprint DIL08
pins: 2 IN-, 3 IN+, 4 -VS, 6 OUT (out), 7 +VS

## AD8001R
designator IC?, comment 800 MHz, 50 mW Current Feedback Amplifier   Source: http://www.analog.com/static/imported-files/data_sheets/AD8001.pdf
MPN: AD8001AR; MF: ALTERA CORPORATION; OC_FARNELL: 9605657; OC_NEWARK: 05F7664
footprint SO8
pins: 2 IN-, 3 IN+, 4 -VS, 6 OUT (out), 7 +VS

## AD8001RT
designator IC?, comment 800 MHz, 50 mW Current Feedback Amplifier   Source: http://www.analog.com/static/imported-files/data_sheets/AD8001.pdf
MPN: AD8001ARTZ-REEL7; MF: ALTERA CORPORATION; OC_FARNELL: 1651271; OC_NEWARK: 59K6136
footprint SOT23-5
pins: 1 OUT (out), 2 -VS, 3 IN+, 4 IN-, 5 +VS

## AD8015
designator IC?, comment Wideband/Differential Output Transimpedance Amplifier   Source: http://www.analog.com/static/imported-files/data_sheets/AD8015.pdf
MPN: AD8015ARZ; OC_FARNELL: 1464812; OC_NEWARK: 19M8870
footprint SO8
pins: 2 IN, 4 VBYP, 5 -VS, 6 -OUT (out), 7 +OUT (out), 8 +VS

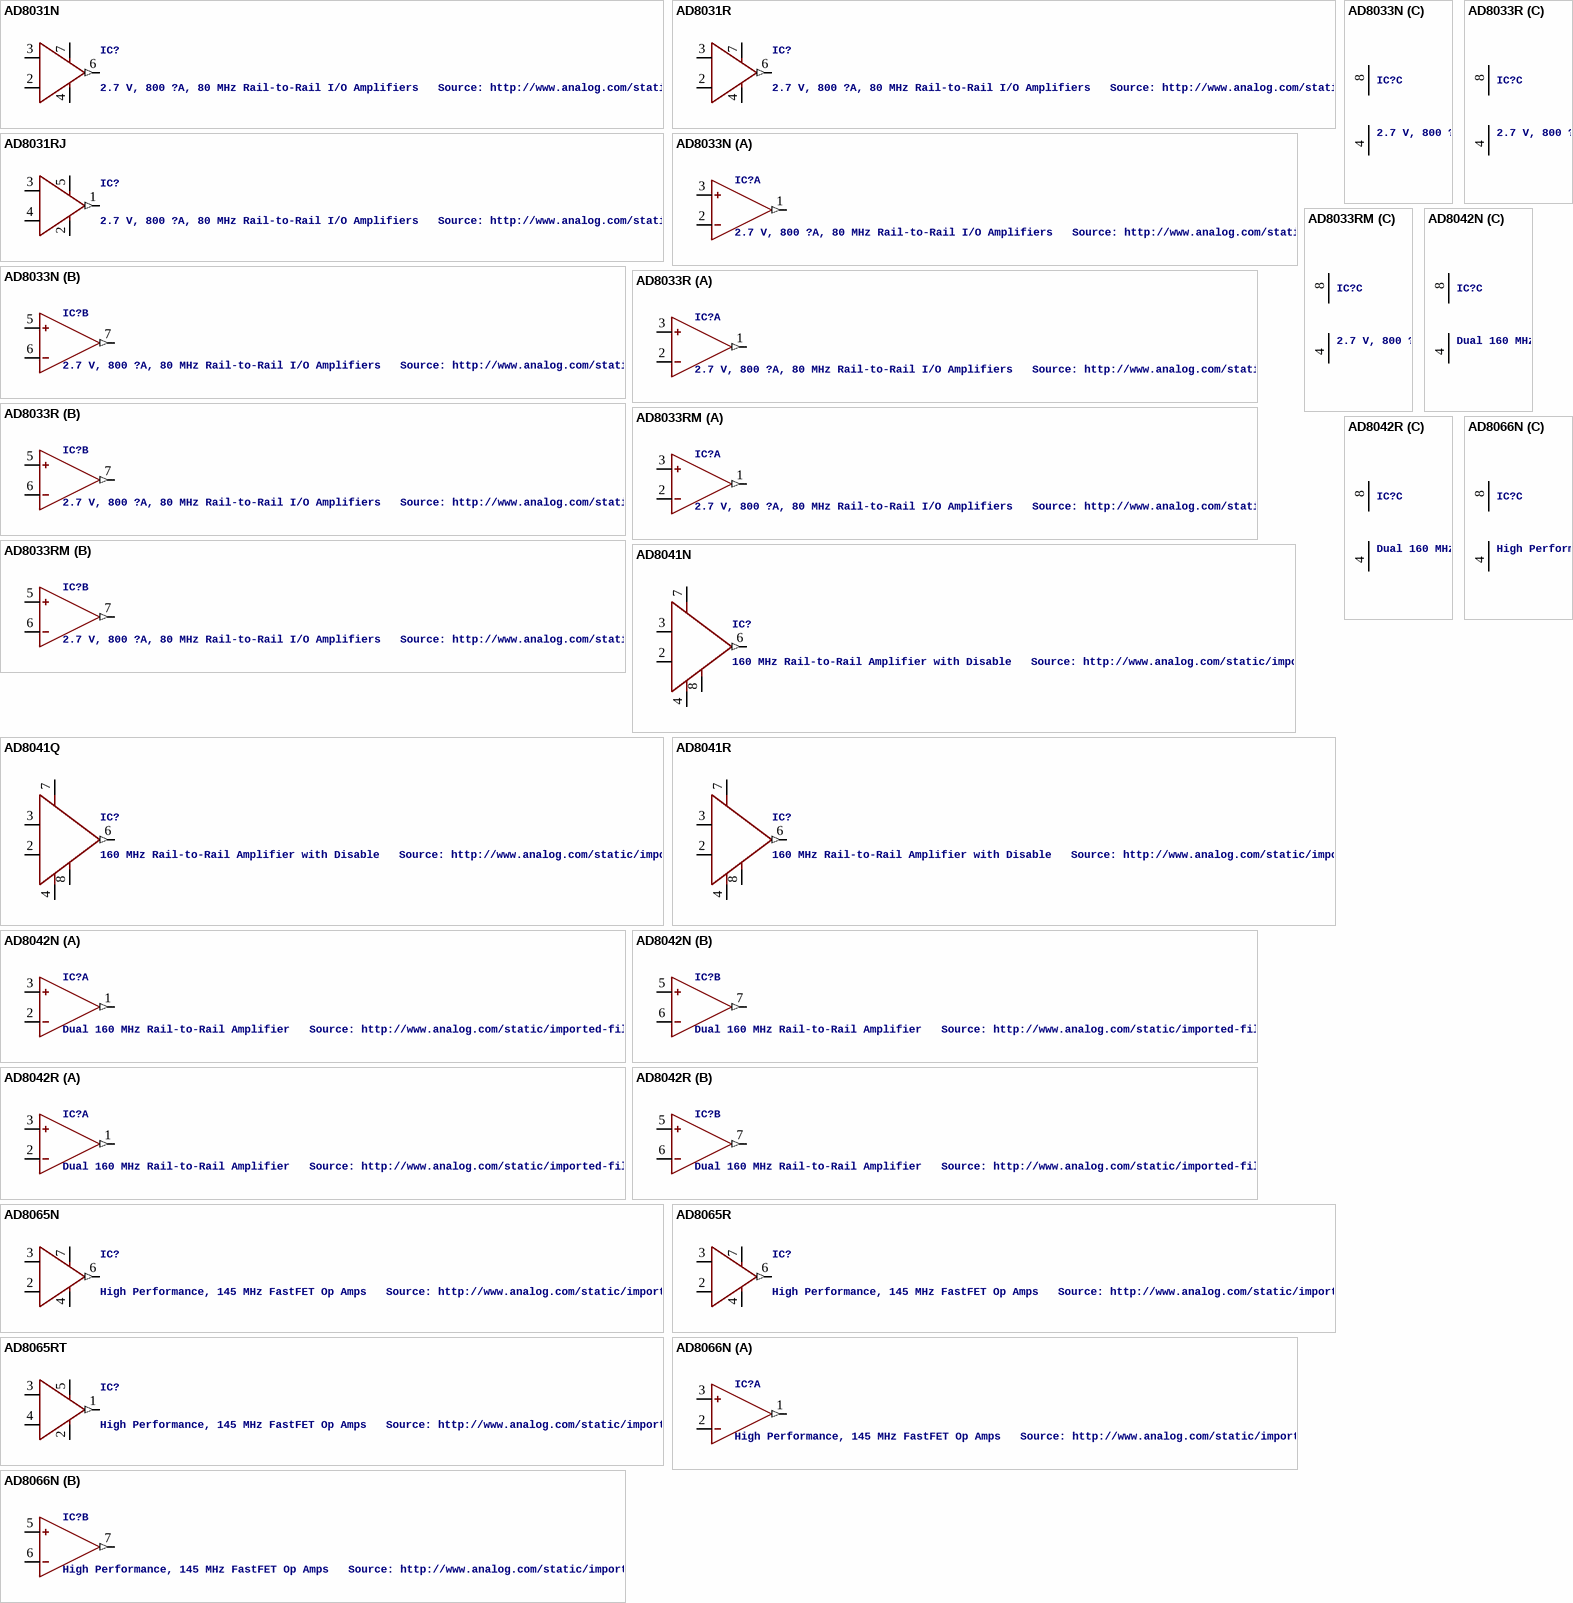
[diagram p10: symbols AD8031N to AD8066N]

## AD8031N
designator IC?, comment 2.7 V, 800 ?A, 80 MHz Rail-to-Rail I/O Amplifiers   Source: http://www.analog.com/static/imported-files/data_sheets/AD8031_8032.pdf
MPN: AD8031BNZ; OC_FARNELL: 1438575; OC_NEWARK: 15P0920
footprint DIL08
pins: 2 IN-, 3 IN+, 4 -VS, 6 OUT (out), 7 +VS

## AD8031R
designator IC?, comment 2.7 V, 800 ?A, 80 MHz Rail-to-Rail I/O Amplifiers   Source: http://www.analog.com/static/imported-files/data_sheets/AD8031_8032.pdf
MPN: AD8031ARZ; OC_FARNELL: 8621500; OC_NEWARK: 19M0917
footprint SO8
pins: 2 IN-, 3 IN+, 4 -VS, 6 OUT (out), 7 +VS

## AD8031RJ
designator IC?, comment 2.7 V, 800 ?A, 80 MHz Rail-to-Rail I/O Amplifiers   Source: http://www.analog.com/static/imported-files/data_sheets/AD8031_8032.pdf
MPN: AD8031ARTZ-REEL7; OC_FARNELL: 1660972; OC_NEWARK: 84R8399
footprint SOT23-5
pins: 1 OUT (out), 2 -VS, 3 IN+, 4 IN-, 5 +VS

## AD8033N
designator IC?, comment 2.7 V, 800 ?A, 80 MHz Rail-to-Rail I/O Amplifiers   Source: http://www.analog.com/static/imported-files/data_sheets/AD8031_8032.pdf
OC_FARNELL: unknown; OC_NEWARK: unknown
footprint DIL08
part A pins: 1 OUT (out), 2 IN-, 3 IN+
part B pins: 5 IN+, 6 IN-, 7 OUT (out)
part C pins: 4 V- (power), 8 V+ (power)

## AD8033R
designator IC?, comment 2.7 V, 800 ?A, 80 MHz Rail-to-Rail I/O Amplifiers   Source: http://www.analog.com/static/imported-files/data_sheets/AD8031_8032.pdf
MPN: AD8033ARZ; MF: ALTERA CORPORATION; OC_FARNELL: 8621519; OC_NEWARK: 59K6245
footprint SO8
part A pins: 1 OUT (out), 2 IN-, 3 IN+
part B pins: 5 IN+, 6 IN-, 7 OUT (out)
part C pins: 4 V- (power), 8 V+ (power)

## AD8033RM
designator IC?, comment 2.7 V, 800 ?A, 80 MHz Rail-to-Rail I/O Amplifiers   Source: http://www.analog.com/static/imported-files/data_sheets/AD8031_8032.pdf
MPN: AD8033ARZ-REEL; MF: ALTERA CORPORATION; OC_FARNELL: 8621519; OC_NEWARK: 59K6246
footprint MSOP08
part A pins: 1 OUT (out), 2 IN-, 3 IN+
part B pins: 5 IN+, 6 IN-, 7 OUT (out)
part C pins: 4 V- (power), 8 V+ (power)

## AD8041N
designator IC?, comment 160 MHz Rail-to-Rail Amplifier with Disable   Source: http://www.analog.com/static/imported-files/data_sheets/AD8041.pdf
MPN: AD8041ANZ; OC_FARNELL: 1438577; OC_NEWARK: 15P0923
footprint DIL08
pins: 2 IN-, 3 IN+, 4 -VS, 6 OUT (out), 7 +VS, 8 DISABLE